# Altium schematic symbol library CHXXX.schlib: 532 symbols (part 6 of 8)
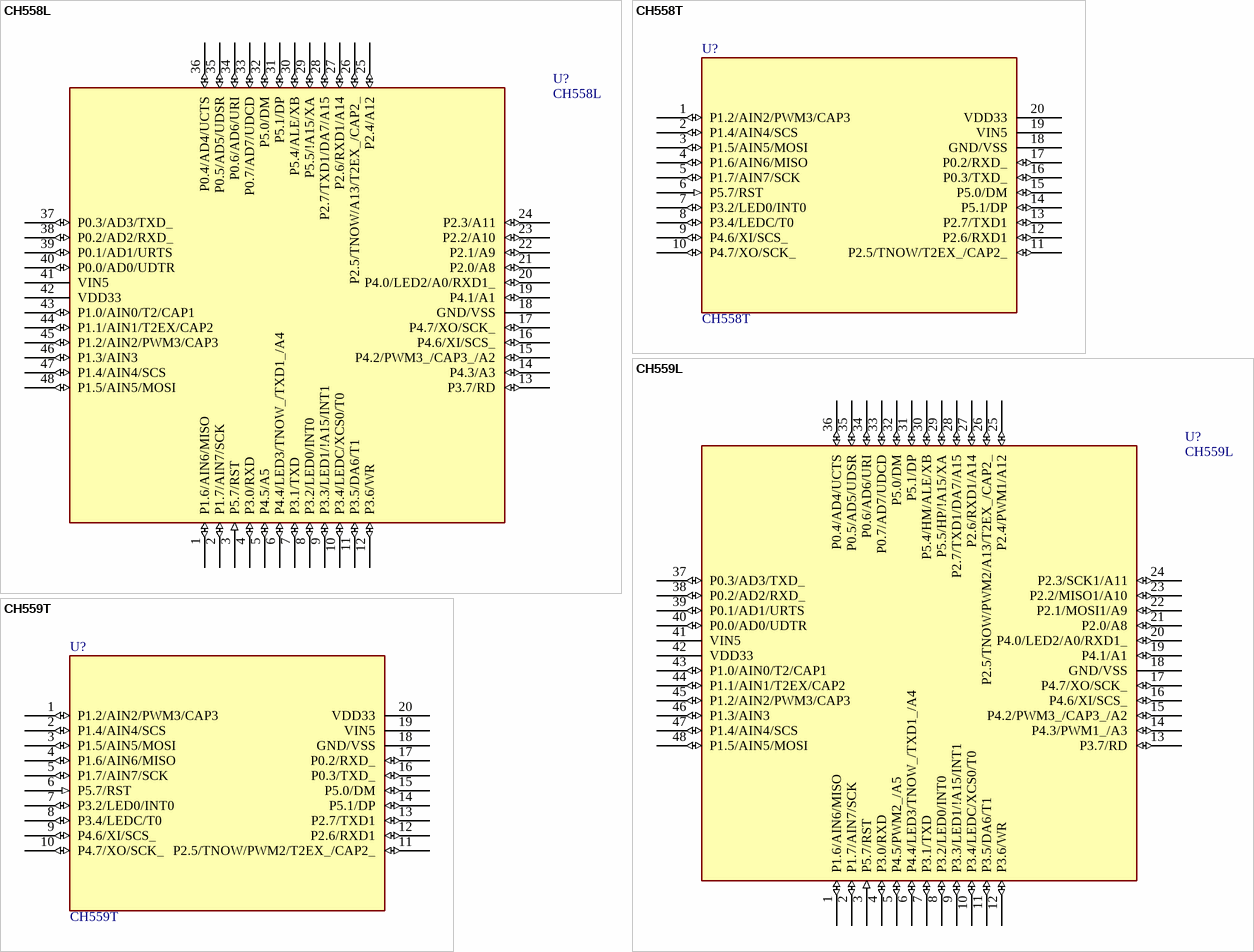
[diagram p75: symbols CH558L to CH559T]

## CH558L
designator U?
8bit MCS51 MCU with ADC & SPI & USB device & dual UART
footprint LQFP48
pins: 1 P1.6/AIN6/MISO (io), 2 P1.7/AIN7/SCK (io), 3 P5.7/RST (in), 4 P3.0/RXD (io), 5 P4.5/A5 (io), 6 P4.4/LED3/TNOW_/TXD1_/A4 (io), 7 P3.1/TXD (io), 8 P3.2/LED0/INT0 (io), 9 P3.3/LED1/!A15/INT1 (io), 10 P3.4/LEDC/XCS0/T0 (io), 11 P3.5/DA6/T1 (io), 12 P3.6/WR (io), 13 P3.7/RD (io), 14 P4.3/A3 (io), 15 P4.2/PWM3_/CAP3_/A2 (io), 16 P4.6/XI/SCS_ (io), 17 P4.7/XO/SCK_ (io), 18 GND/VSS (power), 19 P4.1/A1 (io), 20 P4.0/LED2/A0/RXD1_ (io), 21 P2.0/A8 (io), 22 P2.1/A9 (io), 23 P2.2/A10 (io), 24 P2.3/A11 (io), 25 P2.4/A12 (io), 26 P2.5/TNOW/A13/T2EX_/CAP2_ (io), 27 P2.6/RXD1/A14 (io), 28 P2.7/TXD1/DA7/A15 (io), 29 P5.5/!A15/XA (io), 30 P5.4/ALE/XB (io), 31 P5.1/DP (io), 32 P5.0/DM (io), 33 P0.7/AD7/UDCD (io), 34 P0.6/AD6/URI (io), 35 P0.5/AD5/UDSR (io), 36 P0.4/AD4/UCTS (io), 37 P0.3/AD3/TXD_ (io), 38 P0.2/AD2/RXD_ (io), 39 P0.1/AD1/URTS (io), 40 P0.0/AD0/UDTR (io), 41 VIN5 (power), 42 VDD33 (power), 43 P1.0/AIN0/T2/CAP1 (io), 44 P1.1/AIN1/T2EX/CAP2 (io), 45 P1.2/AIN2/PWM3/CAP3 (io), 46 P1.3/AIN3 (io), 47 P1.4/AIN4/SCS (io), 48 P1.5/AIN5/MOSI (io)

## CH558T
designator U?
8bit MCS51 MCU with ADC & SPI & USB device & dual UART
footprint SSOP20
footprint DIP20
pins: 1 P1.2/AIN2/PWM3/CAP3 (io), 2 P1.4/AIN4/SCS (io), 3 P1.5/AIN5/MOSI (io), 4 P1.6/AIN6/MISO (io), 5 P1.7/AIN7/SCK (io), 6 P5.7/RST (in), 7 P3.2/LED0/INT0 (io), 8 P3.4/LEDC/T0 (io), 9 P4.6/XI/SCS_ (io), 10 P4.7/XO/SCK_ (io), 11 P2.5/TNOW/T2EX_/CAP2_ (io), 12 P2.6/RXD1 (io), 13 P2.7/TXD1 (io), 14 P5.1/DP (io), 15 P5.0/DM (io), 16 P0.3/TXD_ (io), 17 P0.2/RXD_ (io), 18 GND/VSS (power), 19 VIN5 (power), 20 VDD33 (power)

## CH559L
designator U?
8bit MCS51 MCU with ADC & SPI & 2 * USB host & device & dual UART
footprint LQFP48
pins: 1 P1.6/AIN6/MISO (io), 2 P1.7/AIN7/SCK (io), 3 P5.7/RST (in), 4 P3.0/RXD (io), 5 P4.5/PWM2_/A5 (io), 6 P4.4/LED3/TNOW_/TXD1_/A4 (io), 7 P3.1/TXD (io), 8 P3.2/LED0/INT0 (io), 9 P3.3/LED1/!A15/INT1 (io), 10 P3.4/LEDC/XCS0/T0 (io), 11 P3.5/DA6/T1 (io), 12 P3.6/WR (io), 13 P3.7/RD (io), 14 P4.3/PWM1_/A3 (io), 15 P4.2/PWM3_/CAP3_/A2 (io), 16 P4.6/XI/SCS_ (io), 17 P4.7/XO/SCK_ (io), 18 GND/VSS (power), 19 P4.1/A1 (io), 20 P4.0/LED2/A0/RXD1_ (io), 21 P2.0/A8 (io), 22 P2.1/MOSI1/A9 (io), 23 P2.2/MISO1/A10 (io), 24 P2.3/SCK1/A11 (io), 25 P2.4/PWM1/A12 (io), 26 P2.5/TNOW/PWM2/A13/T2EX_/CAP2_ (io), 27 P2.6/RXD1/A14 (io), 28 P2.7/TXD1/DA7/A15 (io), 29 P5.5/HP/!A15/XA (io), 30 P5.4/HM/ALE/XB (io), 31 P5.1/DP (io), 32 P5.0/DM (io), 33 P0.7/AD7/UDCD (io), 34 P0.6/AD6/URI (io), 35 P0.5/AD5/UDSR (io), 36 P0.4/AD4/UCTS (io), 37 P0.3/AD3/TXD_ (io), 38 P0.2/AD2/RXD_ (io), 39 P0.1/AD1/URTS (io), 40 P0.0/AD0/UDTR (io), 41 VIN5 (power), 42 VDD33 (power), 43 P1.0/AIN0/T2/CAP1 (io), 44 P1.1/AIN1/T2EX/CAP2 (io), 45 P1.2/AIN2/PWM3/CAP3 (io), 46 P1.3/AIN3 (io), 47 P1.4/AIN4/SCS (io), 48 P1.5/AIN5/MOSI (io)

## CH559T
designator U?
8bit MCS51 MCU with ADC & SPI & USB host & device & dual UART
footprint SSOP20
footprint DIP20
pins: 1 P1.2/AIN2/PWM3/CAP3 (io), 2 P1.4/AIN4/SCS (io), 3 P1.5/AIN5/MOSI (io), 4 P1.6/AIN6/MISO (io), 5 P1.7/AIN7/SCK (io), 6 P5.7/RST (in), 7 P3.2/LED0/INT0 (io), 8 P3.4/LEDC/T0 (io), 9 P4.6/XI/SCS_ (io), 10 P4.7/XO/SCK_ (io), 11 P2.5/TNOW/PWM2/T2EX_/CAP2_ (io), 12 P2.6/RXD1 (io), 13 P2.7/TXD1 (io), 14 P5.1/DP (io), 15 P5.0/DM (io), 16 P0.3/TXD_ (io), 17 P0.2/RXD_ (io), 18 GND/VSS (power), 19 VIN5 (power), 20 VDD33 (power)

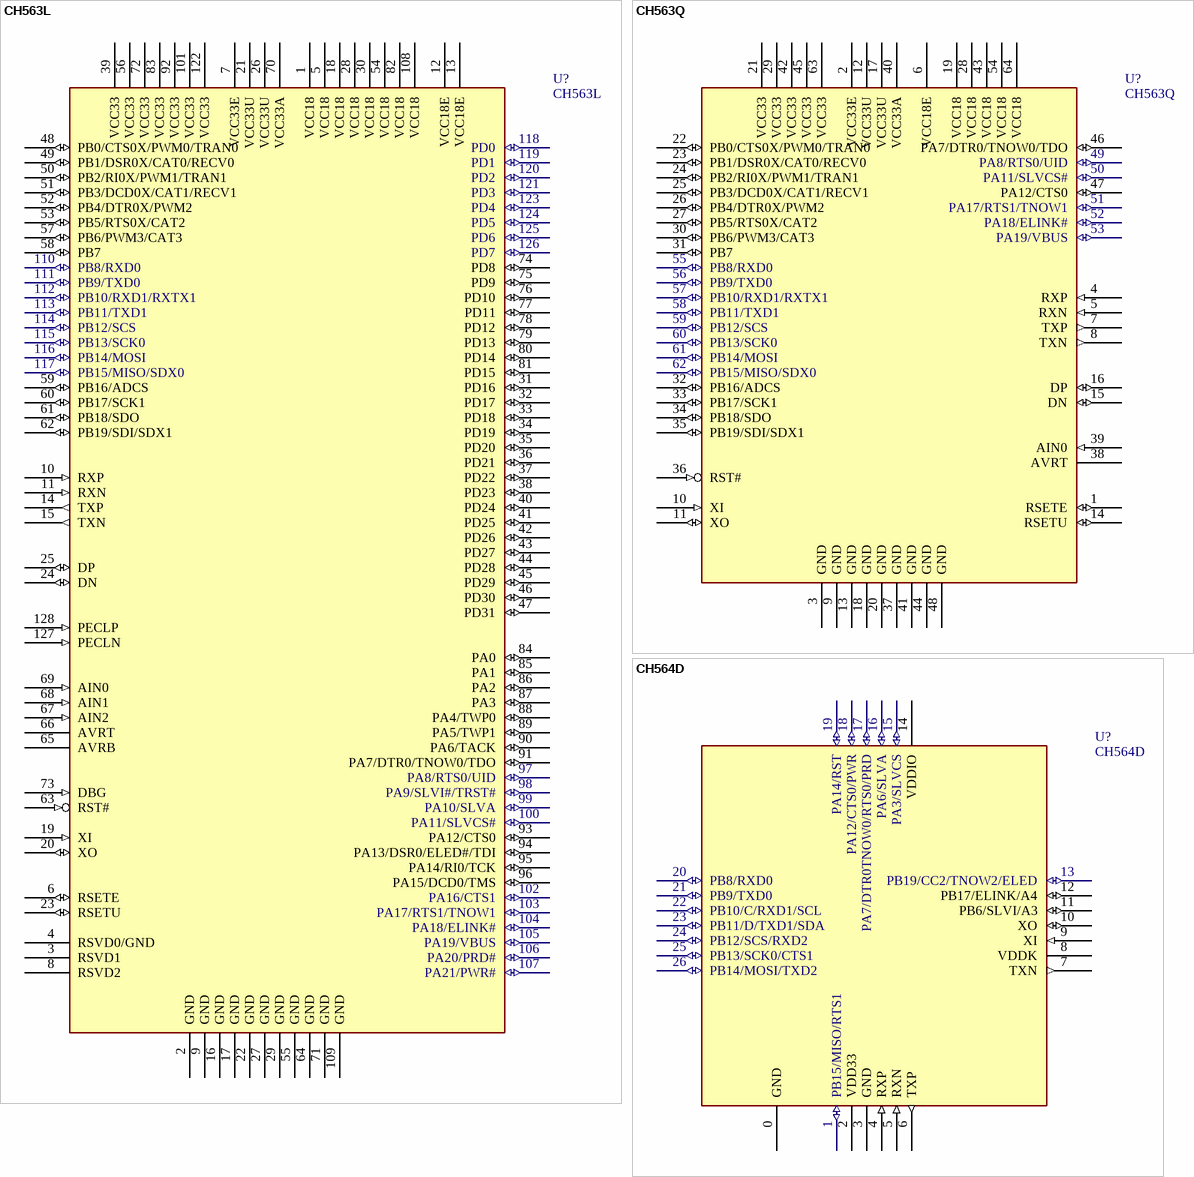
[diagram p46: symbols CH563L to CH564D]

## CH563L
designator U?
32bit MCU with USB OTG 2.0 & 100Mbps Ethernet
footprint LQFP128
pins: 1 VCC18 (power), 2 GND (power), 3 RSVD1, 4 RSVD0/GND (power), 5 VCC18 (power), 6 RSETE (io), 7 VCC33E (power), 8 RSVD2, 9 GND (power), 10 RXP (in), 11 RXN (in), 12 VCC18E (power), 13 VCC18E (power), 14 TXP (out), 15 TXN (out), 16 GND (power), 17 GND (power), 18 VCC18 (power), 19 XI (in), 20 XO (io), 21 VCC33U (power), 22 GND (power), 23 RSETU (io), 24 DN (io), 25 DP (io), 26 VCC33U (power), 27 GND (power), 28 VCC18 (power), 29 GND (power), 30 VCC18 (power), 31 PD16 (io), 32 PD17 (io), 33 PD18 (io), 34 PD19 (io), 35 PD20 (io), 36 PD21 (io), 37 PD22 (io), 38 PD23 (io), 39 VCC33 (power), 40 PD24 (io), 41 PD25 (io), 42 PD26 (io), 43 PD27 (io), 44 PD28 (io), 45 PD29 (io), 46 PD30 (io), 47 PD31 (io), 48 PB0/CTS0X/PWM0/TRAN0 (io), 49 PB1/DSR0X/CAT0/RECV0 (io), 50 PB2/RI0X/PWM1/TRAN1 (io), 51 PB3/DCD0X/CAT1/RECV1 (io), 52 PB4/DTR0X/PWM2 (io), 53 PB5/RTS0X/CAT2 (io), 54 VCC18 (power), 55 GND (power), 56 VCC33 (power), 57 PB6/PWM3/CAT3 (io), 58 PB7 (io), 59 PB16/ADCS (io), 60 PB17/SCK1 (io), 61 PB18/SDO (io), 62 PB19/SDI/SDX1 (io), 63 RST# (in), 64 GND (power), 65 AVRB (power), 66 AVRT (power), 67 AIN2 (in), 68 AIN1 (in), 69 AIN0 (in), 70 VCC33A (power), 71 GND (power), 72 VCC33 (power), 73 DBG (in), 74 PD8 (io), 75 PD9 (io), 76 PD10 (io), 77 PD11 (io), 78 PD12 (io), 79 PD13 (io), 80 PD14 (io), 81 PD15 (io), 82 VCC18 (power), 83 VCC33 (power), 84 PA0 (io), 85 PA1 (io), 86 PA2 (io), 87 PA3 (io), 88 PA4/TWP0 (io), 89 PA5/TWP1 (io), 90 PA6/TACK (io), 91 PA7/DTR0/TNOW0/TDO (io), 92 VCC33 (power), 93 PA12/CTS0 (io), 94 PA13/DSR0/ELED#/TDI (io), 95 PA14/RI0/TCK (io), 96 PA15/DCD0/TMS (io), 97 PA8/RTS0/UID (io), 98 PA9/SLVI#/TRST# (io), 99 PA10/SLVA (io), 100 PA11/SLVCS# (io), 101 VCC33 (power), 102 PA16/CTS1 (io), 103 PA17/RTS1/TNOW1 (io), 104 PA18/ELINK# (io), 105 PA19/VBUS (io), 106 PA20/PRD# (io), 107 PA21/PWR# (io), 108 VCC18 (power), 109 GND (power), 110 PB8/RXD0 (io), 111 PB9/TXD0 (io), 112 PB10/RXD1/RXTX1 (io), 113 PB11/TXD1 (io), 114 PB12/SCS (io), 115 PB13/SCK0 (io), 116 PB14/MOSI (io), 117 PB15/MISO/SDX0 (io), 118 PD0 (io), 119 PD1 (io), 120 PD2 (io), 121 PD3 (io), 122 VCC33 (power), 123 PD4 (io), 124 PD5 (io), 125 PD6 (io), 126 PD7 (io), 127 PECLN (in), 128 PECLP (in)

## CH563Q
designator U?
32bit MCU with USB OTG 2.0 & 100Mbps Ethernet
footprint LQFP64M_10X10
pins: 1 RSETE (io), 2 VCC33E (power), 3 GND (power), 4 RXP (in), 5 RXN (in), 6 VCC18E (power), 7 TXP (out), 8 TXN (out), 9 GND (power), 10 XI (in), 11 XO (io), 12 VCC33U (power), 13 GND (power), 14 RSETU (io), 15 DN (io), 16 DP (io), 17 VCC33U (power), 18 GND (power), 19 VCC18 (power), 20 GND (power), 21 VCC33 (power), 22 PB0/CTS0X/PWM0/TRAN0 (io), 23 PB1/DSR0X/CAT0/RECV0 (io), 24 PB2/RI0X/PWM1/TRAN1 (io), 25 PB3/DCD0X/CAT1/RECV1 (io), 26 PB4/DTR0X/PWM2 (io), 27 PB5/RTS0X/CAT2 (io), 28 VCC18 (power), 29 VCC33 (power), 30 PB6/PWM3/CAT3 (io), 31 PB7 (io), 32 PB16/ADCS (io), 33 PB17/SCK1 (io), 34 PB18/SDO (io), 35 PB19/SDI/SDX1 (io), 36 RST# (in), 37 GND (power), 38 AVRT (power), 39 AIN0 (in), 40 VCC33A (power), 41 GND (power), 42 VCC33 (power), 43 VCC18 (power), 44 GND (power), 45 VCC33 (power), 46 PA7/DTR0/TNOW0/TDO (io), 47 PA12/CTS0 (io), 48 GND (power), 49 PA8/RTS0/UID (io), 50 PA11/SLVCS# (io), 51 PA17/RTS1/TNOW1 (io), 52 PA18/ELINK# (io), 53 PA19/VBUS (io), 54 VCC18 (power), 55 PB8/RXD0 (io), 56 PB9/TXD0 (io), 57 PB10/RXD1/RXTX1 (io), 58 PB11/TXD1 (io), 59 PB12/SCS (io), 60 PB13/SCK0 (io), 61 PB14/MOSI (io), 62 PB15/MISO/SDX0 (io), 63 VCC33 (power), 64 VCC18 (power)

## CH564D
designator U?
RISC-V MCU with 100Mbps Ethernet
footprint QFN26C_3X3
pins: 0 GND (power), 1 PB15/MISO/RTS1 (io), 2 VDD33 (power), 3 GND (power), 4 RXP (in), 5 RXN (in), 6 TXP (out), 7 TXN (out), 8 VDDK (power), 9 XI (in), 10 XO (io), 11 PB6/SLVI/A3 (io), 12 PB17/ELINK/A4 (io), 13 PB19/CC2/TNOW2/ELED (io), 14 VDDIO (power), 15 PA3/SLVCS (io), 16 PA6/SLVA (io), 17 PA7/DTR0TNOW0/RTS0/PRD (io), 18 PA12/CTS0/PWR (io), 19 PA14/RST (io), 20 PB8/RXD0 (io), 21 PB9/TXD0 (io), 22 PB10/C/RXD1/SCL (io), 23 PB11/D/TXD1/SDA (io), 24 PB12/SCS/RXD2 (io), 25 PB13/SCK0/CTS1 (io), 26 PB14/MOSI/TXD2 (io)
2 alternate drawings of the same symbol

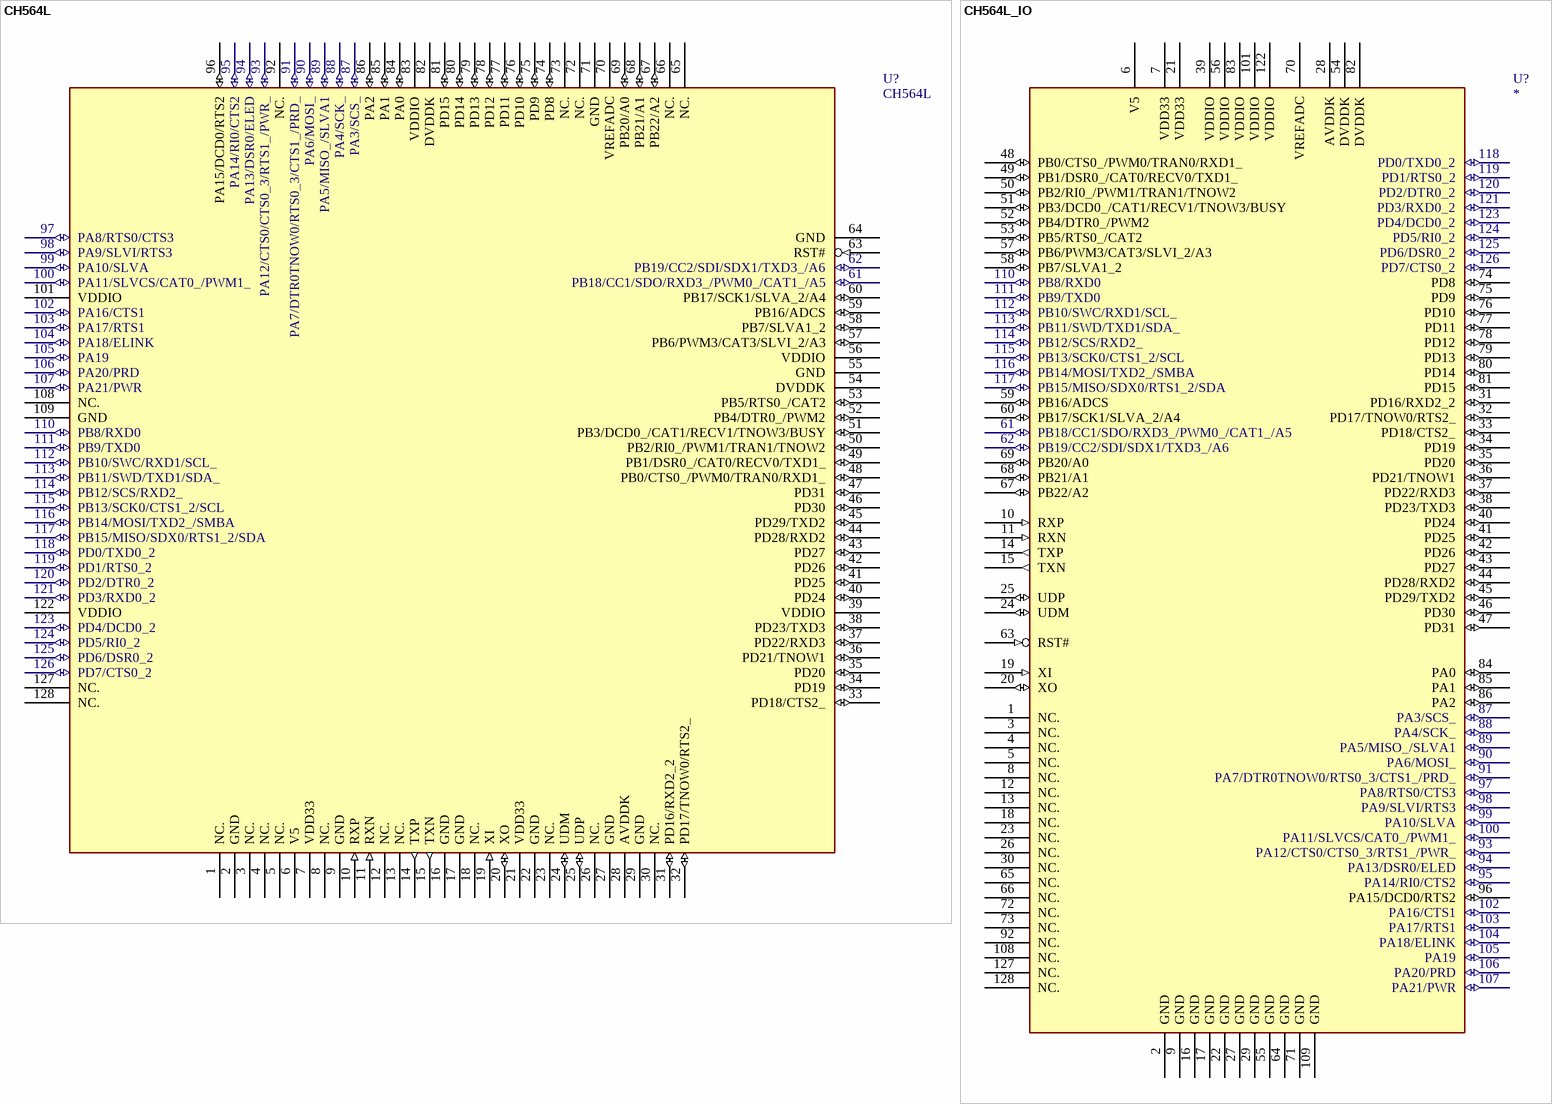
[diagram p47: symbols CH564L to CH564L_IO]

## CH564L
designator U?
RISC-V MCU with USB OTG 2.0 & 100Mbps Ethernet
footprint LQFP128
pins: 1 NC., 2 GND (power), 3 NC., 4 NC., 5 NC., 6 V5 (power), 7 VDD33 (power), 8 NC., 9 GND (power), 10 RXP (in), 11 RXN (in), 12 NC., 13 NC., 14 TXP (out), 15 TXN (out), 16 GND (power), 17 GND (power), 18 NC., 19 XI (in), 20 XO (io), 21 VDD33 (power), 22 GND (power), 23 NC., 24 UDM (io), 25 UDP (io), 26 NC., 27 GND (power), 28 AVDDK (power), 29 GND (power), 30 NC., 31 PD16/RXD2_2 (io), 32 PD17/TNOW0/RTS2_ (io), 33 PD18/CTS2_ (io), 34 PD19 (io), 35 PD20 (io), 36 PD21/TNOW1 (io), 37 PD22/RXD3 (io), 38 PD23/TXD3 (io), 39 VDDIO (power), 40 PD24 (io), 41 PD25 (io), 42 PD26 (io), 43 PD27 (io), 44 PD28/RXD2 (io), 45 PD29/TXD2 (io), 46 PD30 (io), 47 PD31 (io), 48 PB0/CTS0_/PWM0/TRAN0/RXD1_ (io), 49 PB1/DSR0_/CAT0/RECV0/TXD1_ (io), 50 PB2/RI0_/PWM1/TRAN1/TNOW2 (io), 51 PB3/DCD0_/CAT1/RECV1/TNOW3/BUSY (io), 52 PB4/DTR0_/PWM2 (io), 53 PB5/RTS0_/CAT2 (io), 54 DVDDK (power), 55 GND (power), 56 VDDIO (power), 57 PB6/PWM3/CAT3/SLVI_2/A3 (io), 58 PB7/SLVA1_2 (io), 59 PB16/ADCS (io), 60 PB17/SCK1/SLVA_2/A4 (io), 61 PB18/CC1/SDO/RXD3_/PWM0_/CAT1_/A5 (io), 62 PB19/CC2/SDI/SDX1/TXD3_/A6 (io), 63 RST# (in), 64 GND (power), 65 NC., 66 NC., 67 PB22/A2 (io), 68 PB21/A1 (io), 69 PB20/A0 (io), 70 VREFADC (power), 71 GND (power), 72 NC., 73 NC., 74 PD8 (io), 75 PD9 (io), 76 PD10 (io), 77 PD11 (io), 78 PD12 (io), 79 PD13 (io), 80 PD14 (io), 81 PD15 (io), 82 DVDDK (power), 83 VDDIO (power), 84 PA0 (io), 85 PA1 (io), 86 PA2 (io), 87 PA3/SCS_ (io), 88 PA4/SCK_ (io), 89 PA5/MISO_/SLVA1 (io), 90 PA6/MOSI_ (io), 91 PA7/DTR0TNOW0/RTS0_3/CTS1_/PRD_ (io), 92 NC., 93 PA12/CTS0/CTS0_3/RTS1_/PWR_ (io), 94 PA13/DSR0/ELED (io), 95 PA14/RI0/CTS2 (io), 96 PA15/DCD0/RTS2 (io), 97 PA8/RTS0/CTS3 (io), 98 PA9/SLVI/RTS3 (io), 99 PA10/SLVA (io), 100 PA11/SLVCS/CAT0_/PWM1_ (io), 101 VDDIO (power), 102 PA16/CTS1 (io), 103 PA17/RTS1 (io), 104 PA18/ELINK (io), 105 PA19 (io), 106 PA20/PRD (io), 107 PA21/PWR (io), 108 NC., 109 GND (power), 110 PB8/RXD0 (io), 111 PB9/TXD0 (io), 112 PB10/SWC/RXD1/SCL_ (io), 113 PB11/SWD/TXD1/SDA_ (io), 114 PB12/SCS/RXD2_ (io), 115 PB13/SCK0/CTS1_2/SCL (io), 116 PB14/MOSI/TXD2_/SMBA (io), 117 PB15/MISO/SDX0/RTS1_2/SDA (io), 118 PD0/TXD0_2 (io), 119 PD1/RTS0_2 (io), 120 PD2/DTR0_2 (io), 121 PD3/RXD0_2 (io), 122 VDDIO (power), 123 PD4/DCD0_2 (io), 124 PD5/RI0_2 (io), 125 PD6/DSR0_2 (io), 126 PD7/CTS0_2 (io), 127 NC., 128 NC.
2 alternate drawings of the same symbol

## CH564L_IO
designator U?
RISC-V MCU with USB OTG 2.0 & 100Mbps Ethernet
footprint LQFP128
pins: 1 NC., 2 GND (power), 3 NC., 4 NC., 5 NC., 6 V5 (power), 7 VDD33 (power), 8 NC., 9 GND (power), 10 RXP (in), 11 RXN (in), 12 NC., 13 NC., 14 TXP (out), 15 TXN (out), 16 GND (power), 17 GND (power), 18 NC., 19 XI (in), 20 XO (io), 21 VDD33 (power), 22 GND (power), 23 NC., 24 UDM (io), 25 UDP (io), 26 NC., 27 GND (power), 28 AVDDK (power), 29 GND (power), 30 NC., 31 PD16/RXD2_2 (io), 32 PD17/TNOW0/RTS2_ (io), 33 PD18/CTS2_ (io), 34 PD19 (io), 35 PD20 (io), 36 PD21/TNOW1 (io), 37 PD22/RXD3 (io), 38 PD23/TXD3 (io), 39 VDDIO (power), 40 PD24 (io), 41 PD25 (io), 42 PD26 (io), 43 PD27 (io), 44 PD28/RXD2 (io), 45 PD29/TXD2 (io), 46 PD30 (io), 47 PD31 (io), 48 PB0/CTS0_/PWM0/TRAN0/RXD1_ (io), 49 PB1/DSR0_/CAT0/RECV0/TXD1_ (io), 50 PB2/RI0_/PWM1/TRAN1/TNOW2 (io), 51 PB3/DCD0_/CAT1/RECV1/TNOW3/BUSY (io), 52 PB4/DTR0_/PWM2 (io), 53 PB5/RTS0_/CAT2 (io), 54 DVDDK (power), 55 GND (power), 56 VDDIO (power), 57 PB6/PWM3/CAT3/SLVI_2/A3 (io), 58 PB7/SLVA1_2 (io), 59 PB16/ADCS (io), 60 PB17/SCK1/SLVA_2/A4 (io), 61 PB18/CC1/SDO/RXD3_/PWM0_/CAT1_/A5 (io), 62 PB19/CC2/SDI/SDX1/TXD3_/A6 (io), 63 RST# (in), 64 GND (power), 65 NC., 66 NC., 67 PB22/A2 (io), 68 PB21/A1 (io), 69 PB20/A0 (io), 70 VREFADC (power), 71 GND (power), 72 NC., 73 NC., 74 PD8 (io), 75 PD9 (io), 76 PD10 (io), 77 PD11 (io), 78 PD12 (io), 79 PD13 (io), 80 PD14 (io), 81 PD15 (io), 82 DVDDK (power), 83 VDDIO (power), 84 PA0 (io), 85 PA1 (io), 86 PA2 (io), 87 PA3/SCS_ (io), 88 PA4/SCK_ (io), 89 PA5/MISO_/SLVA1 (io), 90 PA6/MOSI_ (io), 91 PA7/DTR0TNOW0/RTS0_3/CTS1_/PRD_ (io), 92 NC., 93 PA12/CTS0/CTS0_3/RTS1_/PWR_ (io), 94 PA13/DSR0/ELED (io), 95 PA14/RI0/CTS2 (io), 96 PA15/DCD0/RTS2 (io), 97 PA8/RTS0/CTS3 (io), 98 PA9/SLVI/RTS3 (io), 99 PA10/SLVA (io), 100 PA11/SLVCS/CAT0_/PWM1_ (io), 101 VDDIO (power), 102 PA16/CTS1 (io), 103 PA17/RTS1 (io), 104 PA18/ELINK (io), 105 PA19 (io), 106 PA20/PRD (io), 107 PA21/PWR (io), 108 NC., 109 GND (power), 110 PB8/RXD0 (io), 111 PB9/TXD0 (io), 112 PB10/SWC/RXD1/SCL_ (io), 113 PB11/SWD/TXD1/SDA_ (io), 114 PB12/SCS/RXD2_ (io), 115 PB13/SCK0/CTS1_2/SCL (io), 116 PB14/MOSI/TXD2_/SMBA (io), 117 PB15/MISO/SDX0/RTS1_2/SDA (io), 118 PD0/TXD0_2 (io), 119 PD1/RTS0_2 (io), 120 PD2/DTR0_2 (io), 121 PD3/RXD0_2 (io), 122 VDDIO (power), 123 PD4/DCD0_2 (io), 124 PD5/RI0_2 (io), 125 PD6/DSR0_2 (io), 126 PD7/CTS0_2 (io), 127 NC., 128 NC.
2 alternate drawings of the same symbol

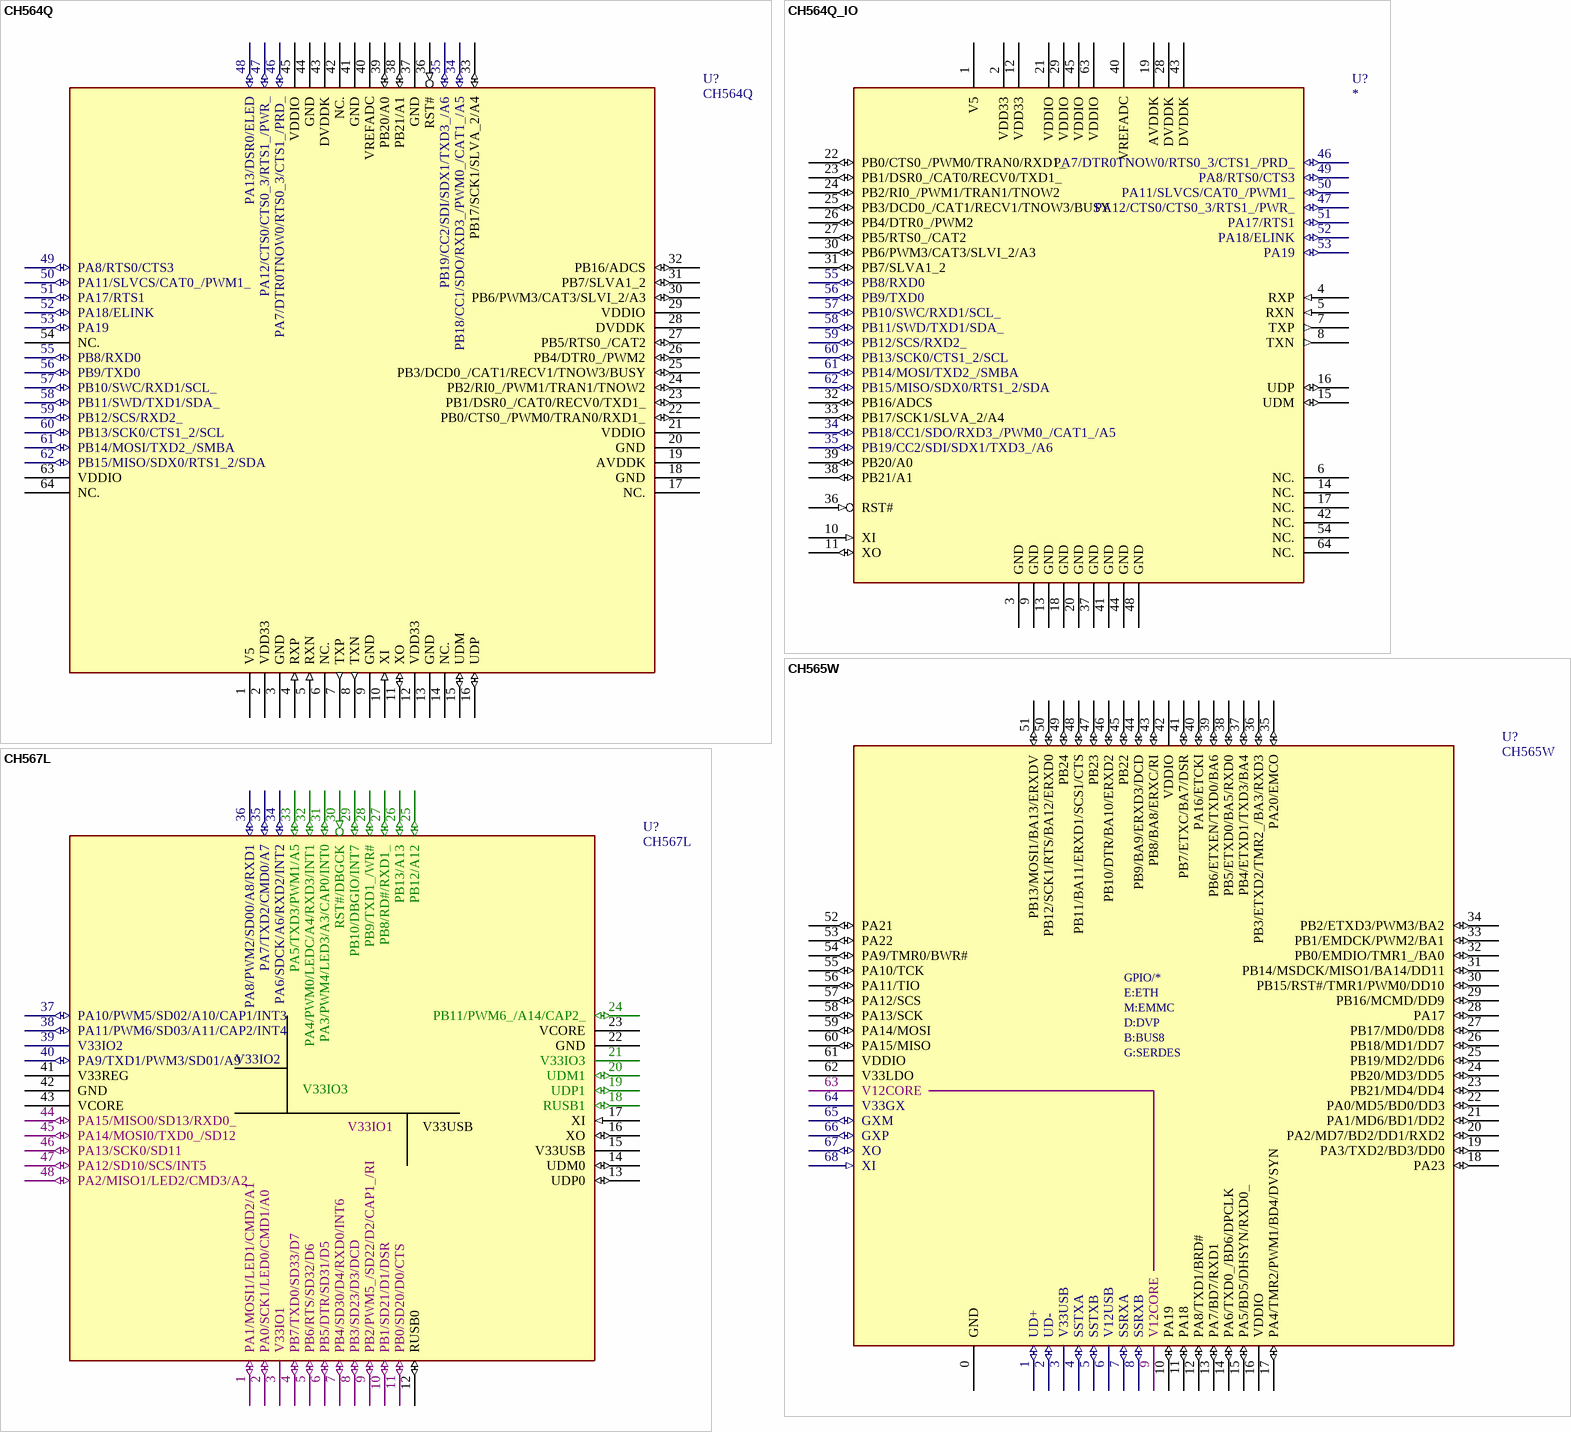
[diagram p48: symbols CH564Q to CH567L]

## CH564Q
designator U?
RISC-V MCU with USB OTG 2.0 & 100Mbps Ethernet
footprint LQFP64M_10X10
pins: 1 V5 (power), 2 VDD33 (power), 3 GND (power), 4 RXP (in), 5 RXN (in), 6 NC., 7 TXP (out), 8 TXN (out), 9 GND (power), 10 XI (in), 11 XO (io), 12 VDD33 (power), 13 GND (power), 14 NC., 15 UDM (io), 16 UDP (io), 17 NC., 18 GND (power), 19 AVDDK (power), 20 GND (power), 21 VDDIO (power), 22 PB0/CTS0_/PWM0/TRAN0/RXD1_ (io), 23 PB1/DSR0_/CAT0/RECV0/TXD1_ (io), 24 PB2/RI0_/PWM1/TRAN1/TNOW2 (io), 25 PB3/DCD0_/CAT1/RECV1/TNOW3/BUSY (io), 26 PB4/DTR0_/PWM2 (io), 27 PB5/RTS0_/CAT2 (io), 28 DVDDK (power), 29 VDDIO (power), 30 PB6/PWM3/CAT3/SLVI_2/A3 (io), 31 PB7/SLVA1_2 (io), 32 PB16/ADCS (io), 33 PB17/SCK1/SLVA_2/A4 (io), 34 PB18/CC1/SDO/RXD3_/PWM0_/CAT1_/A5 (io), 35 PB19/CC2/SDI/SDX1/TXD3_/A6 (io), 36 RST# (in), 37 GND (power), 38 PB21/A1 (io), 39 PB20/A0 (io), 40 VREFADC (power), 41 GND (power), 42 NC., 43 DVDDK (power), 44 GND (power), 45 VDDIO (power), 46 PA7/DTR0TNOW0/RTS0_3/CTS1_/PRD_ (io), 47 PA12/CTS0/CTS0_3/RTS1_/PWR_ (io), 48 PA13/DSR0/ELED (io), 49 PA8/RTS0/CTS3 (io), 50 PA11/SLVCS/CAT0_/PWM1_ (io), 51 PA17/RTS1 (io), 52 PA18/ELINK (io), 53 PA19 (io), 54 NC., 55 PB8/RXD0 (io), 56 PB9/TXD0 (io), 57 PB10/SWC/RXD1/SCL_ (io), 58 PB11/SWD/TXD1/SDA_ (io), 59 PB12/SCS/RXD2_ (io), 60 PB13/SCK0/CTS1_2/SCL (io), 61 PB14/MOSI/TXD2_/SMBA (io), 62 PB15/MISO/SDX0/RTS1_2/SDA (io), 63 VDDIO (power), 64 NC.
2 alternate drawings of the same symbol

## CH564Q_IO
designator U?
RISC-V MCU with USB OTG 2.0 & 100Mbps Ethernet
footprint LQFP64M_10X10
pins: 1 V5 (power), 2 VDD33 (power), 3 GND (power), 4 RXP (in), 5 RXN (in), 6 NC., 7 TXP (out), 8 TXN (out), 9 GND (power), 10 XI (in), 11 XO (io), 12 VDD33 (power), 13 GND (power), 14 NC., 15 UDM (io), 16 UDP (io), 17 NC., 18 GND (power), 19 AVDDK (power), 20 GND (power), 21 VDDIO (power), 22 PB0/CTS0_/PWM0/TRAN0/RXD1_ (io), 23 PB1/DSR0_/CAT0/RECV0/TXD1_ (io), 24 PB2/RI0_/PWM1/TRAN1/TNOW2 (io), 25 PB3/DCD0_/CAT1/RECV1/TNOW3/BUSY (io), 26 PB4/DTR0_/PWM2 (io), 27 PB5/RTS0_/CAT2 (io), 28 DVDDK (power), 29 VDDIO (power), 30 PB6/PWM3/CAT3/SLVI_2/A3 (io), 31 PB7/SLVA1_2 (io), 32 PB16/ADCS (io), 33 PB17/SCK1/SLVA_2/A4 (io), 34 PB18/CC1/SDO/RXD3_/PWM0_/CAT1_/A5 (io), 35 PB19/CC2/SDI/SDX1/TXD3_/A6 (io), 36 RST# (in), 37 GND (power), 38 PB21/A1 (io), 39 PB20/A0 (io), 40 VREFADC (power), 41 GND (power), 42 NC., 43 DVDDK (power), 44 GND (power), 45 VDDIO (power), 46 PA7/DTR0TNOW0/RTS0_3/CTS1_/PRD_ (io), 47 PA12/CTS0/CTS0_3/RTS1_/PWR_ (io), 48 GND (power), 49 PA8/RTS0/CTS3 (io), 50 PA11/SLVCS/CAT0_/PWM1_ (io), 51 PA17/RTS1 (io), 52 PA18/ELINK (io), 53 PA19 (io), 54 NC., 55 PB8/RXD0 (io), 56 PB9/TXD0 (io), 57 PB10/SWC/RXD1/SCL_ (io), 58 PB11/SWD/TXD1/SDA_ (io), 59 PB12/SCS/RXD2_ (io), 60 PB13/SCK0/CTS1_2/SCL (io), 61 PB14/MOSI/TXD2_/SMBA (io), 62 PB15/MISO/SDX0/RTS1_2/SDA (io), 63 VDDIO (power), 64 NC.
2 alternate drawings of the same symbol

## CH565W
designator U?
32bit RISC-V MCU with USB 3.0 SS/HS & 4*UART & ETH & DVP
footprint QFN68_8X8
pins: 0 GND (power), 1 UD+ (io), 2 UD- (io), 3 V33USB (power), 4 SSTXA (io), 5 SSTXB (io), 6 V12USB (power), 7 SSRXA (io), 8 SSRXB (io), 9 V12CORE (power), 10 PA19 (io), 11 PA18 (io), 12 PA8/TXD1/BRD# (io), 13 PA7/BD7/RXD1 (io), 14 PA6/TXD0_/BD6/DPCLK (io), 15 PA5/BD5/DHSYN/RXD0_ (io), 16 VDDIO (power), 17 PA4/TMR2/PWM1/BD4/DVSYN (io), 18 PA23 (io), 19 PA3/TXD2/BD3/DD0 (io), 20 PA2/MD7/BD2/DD1/RXD2 (io), 21 PA1/MD6/BD1/DD2 (io), 22 PA0/MD5/BD0/DD3 (io), 23 PB21/MD4/DD4 (io), 24 PB20/MD3/DD5 (io), 25 PB19/MD2/DD6 (io), 26 PB18/MD1/DD7 (io), 27 PB17/MD0/DD8 (io), 28 PA17 (io), 29 PB16/MCMD/DD9 (io), 30 PB15/RST#/TMR1/PWM0/DD10 (io), 31 PB14/MSDCK/MISO1/BA14/DD11 (io), 32 PB0/EMDIO/TMR1_/BA0 (io), 33 PB1/EMDCK/PWM2/BA1 (io), 34 PB2/ETXD3/PWM3/BA2 (io), 35 PA20/EMCO (io), 36 PB3/ETXD2/TMR2_/BA3/RXD3 (io), 37 PB4/ETXD1/TXD3/BA4 (io), 38 PB5/ETXD0/BA5/RXD0 (io), 39 PB6/ETXEN/TXD0/BA6 (io), 40 PA16/ETCKI (io), 41 PB7/ETXC/BA7/DSR (io), 42 VDDIO (power), 43 PB8/BA8/ERXC/RI (io), 44 PB9/BA9/ERXD3/DCD (io), 45 PB22 (io), 46 PB10/DTR/BA10/ERXD2 (io), 47 PB23 (io), 48 PB11/BA11/ERXD1/SCS1/CTS (io), 49 PB24 (io), 50 PB12/SCK1/RTS/BA12/ERXD0 (io), 51 PB13/MOSI1/BA13/ERXDV (io), 52 PA21 (io), 53 PA22 (io), 54 PA9/TMR0/BWR# (io), 55 PA10/TCK (io), 56 PA11/TIO (io), 57 PA12/SCS (io), 58 PA13/SCK (io), 59 PA14/MOSI (io), 60 PA15/MISO (io), 61 VDDIO (power), 62 V33LDO (power), 63 V12CORE (power), 64 V33GX (power), 65 GXM (io), 66 GXP (io), 67 XO (io), 68 XI (in)
2 alternate drawings of the same symbol
text: GPIO/*; E:ETH; M:EMMC; D:DVP; B:BUS8; G:SERDES

## CH567L
designator U?
32bit MCU with dual USB OTG 2.0 & quad SDIO & quad UART & AES
footprint LQFP48
pins: 1 PA1/MOSI1/LED1/CMD2/A1 (io), 2 PA0/SCK1/LED0/CMD1/A0 (io), 3 V33IO1 (power), 4 PB7/TXD0/SD33/D7 (io), 5 PB6/RTS/SD32/D6 (io), 6 PB5/DTR/SD31/D5 (io), 7 PB4/SD30/D4/RXD0/INT6 (io), 8 PB3/SD23/D3/DCD (io), 9 PB2/PWM5_/SD22/D2/CAP1_/RI (io), 10 PB1/SD21/D1/DSR (io), 11 PB0/SD20/D0/CTS (io), 12 RUSB0 (io), 13 UDP0 (io), 14 UDM0 (io), 15 V33USB (power), 16 XO (io), 17 XI (in), 18 RUSB1 (io), 19 UDP1 (io), 20 UDM1 (io), 21 V33IO3 (power), 22 GND (power), 23 VCORE (power), 24 PB11/PWM6_/A14/CAP2_ (io), 25 PB12/A12 (io), 26 PB13/A13 (io), 27 PB8/RD#/RXD1_ (io), 28 PB9/TXD1_/WR# (io), 29 PB10/DBGIO/INT7 (io), 30 RST#/DBGCK (in), 31 PA3/PWM4/LED3/A3/CAP0/INT0 (io), 32 PA4/PWM0/LEDC/A4/RXD3/INT1 (io), 33 PA5/TXD3/PWM1/A5 (io), 34 PA6/SDCK/A6/RXD2/INT2 (io), 35 PA7/TXD2/CMD0/A7 (io), 36 PA8/PWM2/SD00/A8/RXD1 (io), 37 PA10/PWM5/SD02/A10/CAP1/INT3 (io), 38 PA11/PWM6/SD03/A11/CAP2/INT4 (io), 39 V33IO2 (power), 40 PA9/TXD1/PWM3/SD01/A9 (io), 41 V33REG (power), 42 GND (power), 43 VCORE (power), 44 PA15/MISO0/SD13/RXD0_ (io), 45 PA14/MOSI0/TXD0_/SD12 (io), 46 PA13/SCK0/SD11 (io), 47 PA12/SD10/SCS/INT5 (io), 48 PA2/MISO1/LED2/CMD3/A2 (io)

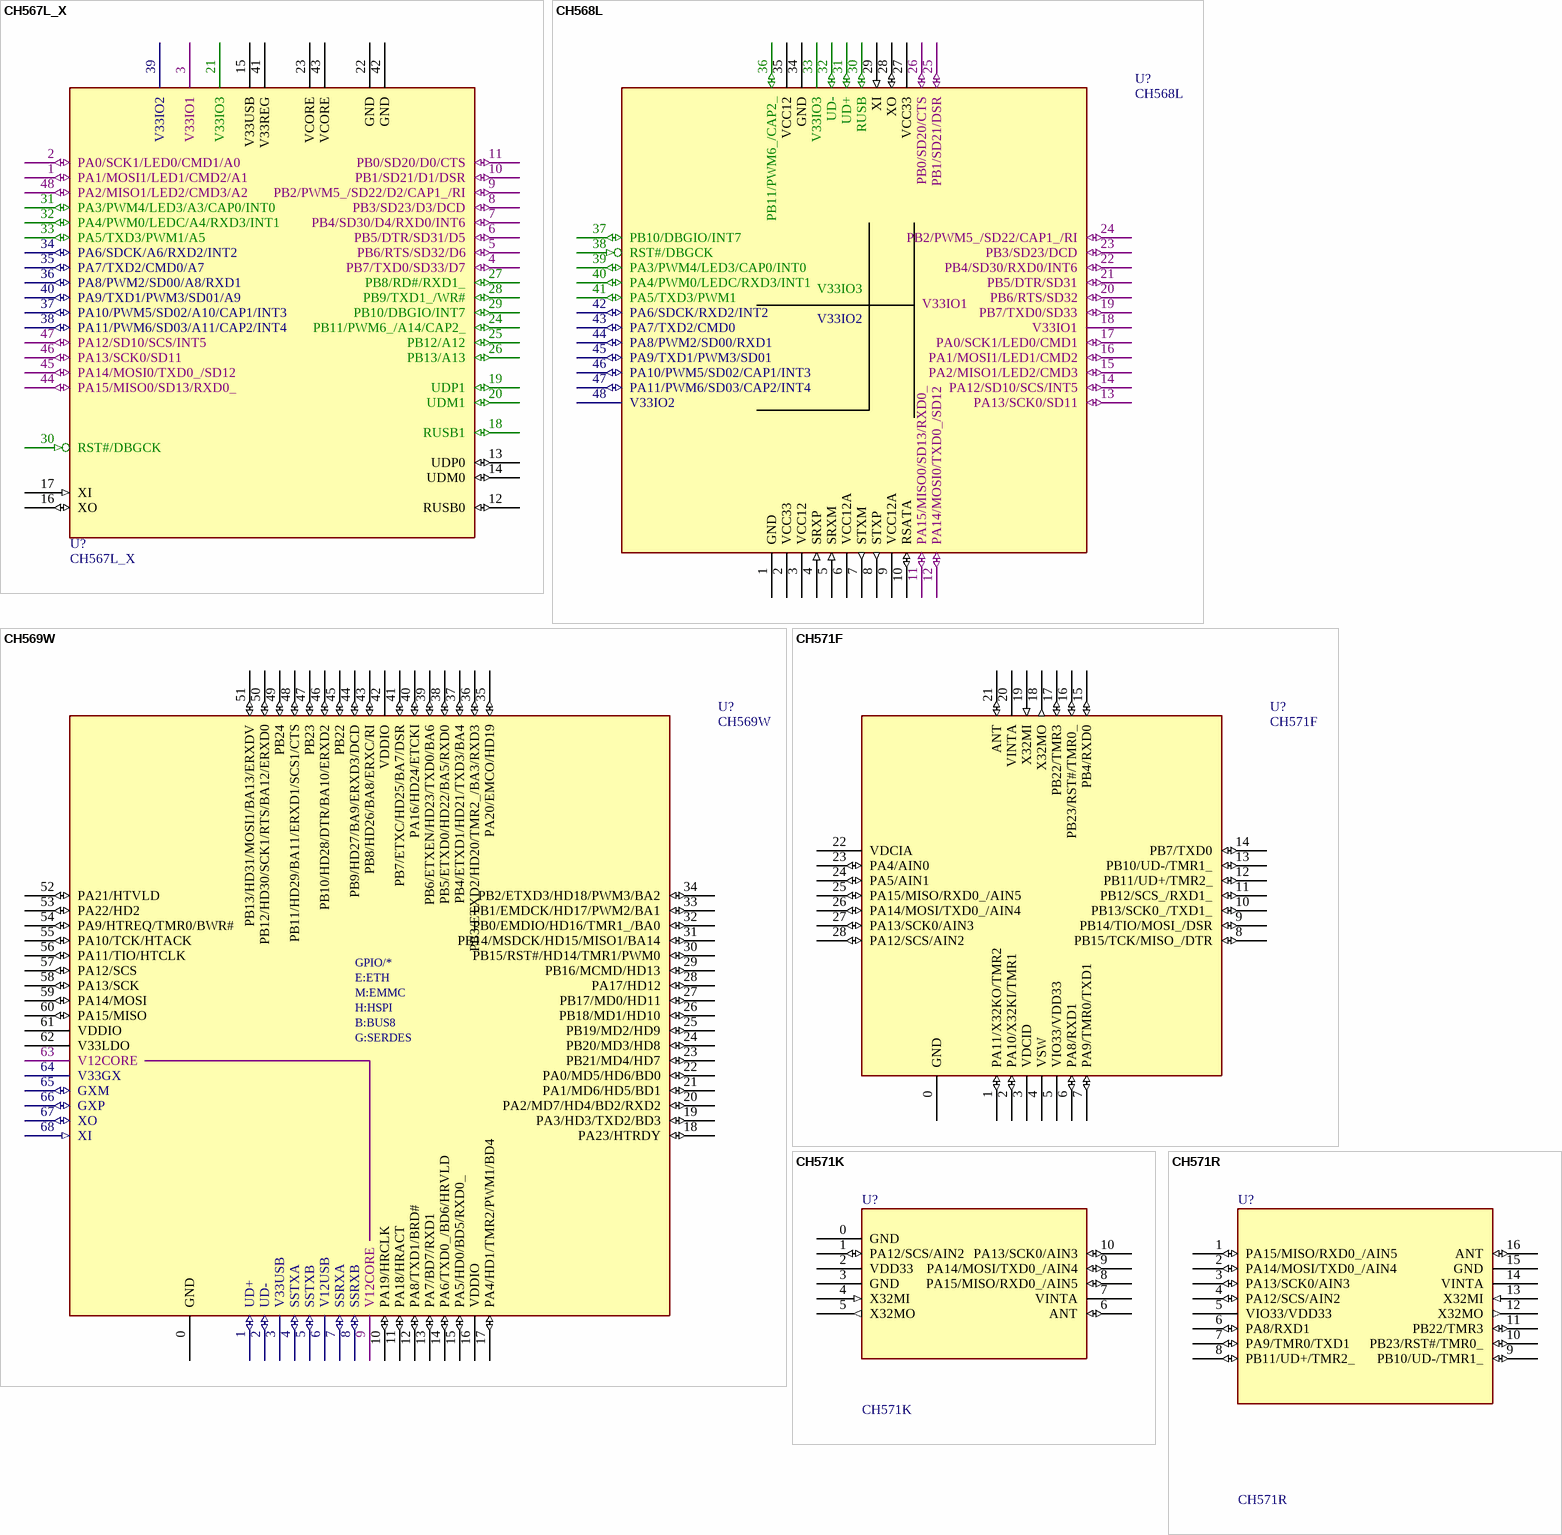
[diagram p49: symbols CH567L_X to CH571R]

## CH567L_X
designator U?
32bit MCU with dual USB OTG 2.0 & quad SDIO & quad UART & AES
footprint LQFP48
pins: 1 PA1/MOSI1/LED1/CMD2/A1 (io), 2 PA0/SCK1/LED0/CMD1/A0 (io), 3 V33IO1 (power), 4 PB7/TXD0/SD33/D7 (io), 5 PB6/RTS/SD32/D6 (io), 6 PB5/DTR/SD31/D5 (io), 7 PB4/SD30/D4/RXD0/INT6 (io), 8 PB3/SD23/D3/DCD (io), 9 PB2/PWM5_/SD22/D2/CAP1_/RI (io), 10 PB1/SD21/D1/DSR (io), 11 PB0/SD20/D0/CTS (io), 12 RUSB0 (io), 13 UDP0 (io), 14 UDM0 (io), 15 V33USB (power), 16 XO (io), 17 XI (in), 18 RUSB1 (io), 19 UDP1 (io), 20 UDM1 (io), 21 V33IO3 (power), 22 GND (power), 23 VCORE (power), 24 PB11/PWM6_/A14/CAP2_ (io), 25 PB12/A12 (io), 26 PB13/A13 (io), 27 PB8/RD#/RXD1_ (io), 28 PB9/TXD1_/WR# (io), 29 PB10/DBGIO/INT7 (io), 30 RST#/DBGCK (in), 31 PA3/PWM4/LED3/A3/CAP0/INT0 (io), 32 PA4/PWM0/LEDC/A4/RXD3/INT1 (io), 33 PA5/TXD3/PWM1/A5 (io), 34 PA6/SDCK/A6/RXD2/INT2 (io), 35 PA7/TXD2/CMD0/A7 (io), 36 PA8/PWM2/SD00/A8/RXD1 (io), 37 PA10/PWM5/SD02/A10/CAP1/INT3 (io), 38 PA11/PWM6/SD03/A11/CAP2/INT4 (io), 39 V33IO2 (power), 40 PA9/TXD1/PWM3/SD01/A9 (io), 41 V33REG (power), 42 GND (power), 43 VCORE (power), 44 PA15/MISO0/SD13/RXD0_ (io), 45 PA14/MOSI0/TXD0_/SD12 (io), 46 PA13/SCK0/SD11 (io), 47 PA12/SD10/SCS/INT5 (io), 48 PA2/MISO1/LED2/CMD3/A2 (io)

## CH568L
designator U?
32bit MCU with USB OTG 2.0 & SATA G2 & quad SDIO & quad UART & AES
footprint LQFP48
pins: 1 GND (power), 2 VCC33 (power), 3 VCC12 (power), 4 SRXP (in), 5 SRXM (in), 6 VCC12A (power), 7 STXM (out), 8 STXP (out), 9 VCC12A (power), 10 RSATA (io), 11 PA15/MISO0/SD13/RXD0_ (io), 12 PA14/MOSI0/TXD0_/SD12 (io), 13 PA13/SCK0/SD11 (io), 14 PA12/SD10/SCS/INT5 (io), 15 PA2/MISO1/LED2/CMD3 (io), 16 PA1/MOSI1/LED1/CMD2 (io), 17 PA0/SCK1/LED0/CMD1 (io), 18 V33IO1 (power), 19 PB7/TXD0/SD33 (io), 20 PB6/RTS/SD32 (io), 21 PB5/DTR/SD31 (io), 22 PB4/SD30/RXD0/INT6 (io), 23 PB3/SD23/DCD (io), 24 PB2/PWM5_/SD22/CAP1_/RI (io), 25 PB1/SD21/DSR (io), 26 PB0/SD20/CTS (io), 27 VCC33 (power), 28 XO (io), 29 XI (in), 30 RUSB (io), 31 UD+ (io), 32 UD- (io), 33 V33IO3 (power), 34 GND (power), 35 VCC12 (power), 36 PB11/PWM6_/CAP2_ (io), 37 PB10/DBGIO/INT7 (io), 38 RST#/DBGCK (in), 39 PA3/PWM4/LED3/CAP0/INT0 (io), 40 PA4/PWM0/LEDC/RXD3/INT1 (io), 41 PA5/TXD3/PWM1 (io), 42 PA6/SDCK/RXD2/INT2 (io), 43 PA7/TXD2/CMD0 (io), 44 PA8/PWM2/SD00/RXD1 (io), 45 PA9/TXD1/PWM3/SD01 (io), 46 PA10/PWM5/SD02/CAP1/INT3 (io), 47 PA11/PWM6/SD03/CAP2/INT4 (io), 48 V33IO2 (power)

## CH569W
designator U?
32bit RISC-V MCU with USB 3.0 SS/HS & 4*UART & ETH & HSPI
footprint QFN68_8X8
pins: 0 GND (power), 1 UD+ (io), 2 UD- (io), 3 V33USB (power), 4 SSTXA (io), 5 SSTXB (io), 6 V12USB (power), 7 SSRXA (io), 8 SSRXB (io), 9 V12CORE (power), 10 PA19/HRCLK (io), 11 PA18/HRACT (io), 12 PA8/TXD1/BRD# (io), 13 PA7/BD7/RXD1 (io), 14 PA6/TXD0_/BD6/HRVLD (io), 15 PA5/HD0/BD5/RXD0_ (io), 16 VDDIO (power), 17 PA4/HD1/TMR2/PWM1/BD4 (io), 18 PA23/HTRDY (io), 19 PA3/HD3/TXD2/BD3 (io), 20 PA2/MD7/HD4/BD2/RXD2 (io), 21 PA1/MD6/HD5/BD1 (io), 22 PA0/MD5/HD6/BD0 (io), 23 PB21/MD4/HD7 (io), 24 PB20/MD3/HD8 (io), 25 PB19/MD2/HD9 (io), 26 PB18/MD1/HD10 (io), 27 PB17/MD0/HD11 (io), 28 PA17/HD12 (io), 29 PB16/MCMD/HD13 (io), 30 PB15/RST#/HD14/TMR1/PWM0 (io), 31 PB14/MSDCK/HD15/MISO1/BA14 (io), 32 PB0/EMDIO/HD16/TMR1_/BA0 (io), 33 PB1/EMDCK/HD17/PWM2/BA1 (io), 34 PB2/ETXD3/HD18/PWM3/BA2 (io), 35 PA20/EMCO/HD19 (io), 36 PB3/ETXD2/HD20/TMR2_/BA3/RXD3 (io), 37 PB4/ETXD1/HD21/TXD3/BA4 (io), 38 PB5/ETXD0/HD22/BA5/RXD0 (io), 39 PB6/ETXEN/HD23/TXD0/BA6 (io), 40 PA16/HD24/ETCKI (io), 41 PB7/ETXC/HD25/BA7/DSR (io), 42 VDDIO (power), 43 PB8/HD26/BA8/ERXC/RI (io), 44 PB9/HD27/BA9/ERXD3/DCD (io), 45 PB22 (io), 46 PB10/HD28/DTR/BA10/ERXD2 (io), 47 PB23 (io), 48 PB11/HD29/BA11/ERXD1/SCS1/CTS (io), 49 PB24 (io), 50 PB12/HD30/SCK1/RTS/BA12/ERXD0 (io), 51 PB13/HD31/MOSI1/BA13/ERXDV (io), 52 PA21/HTVLD (io), 53 PA22/HD2 (io), 54 PA9/HTREQ/TMR0/BWR# (io), 55 PA10/TCK/HTACK (io), 56 PA11/TIO/HTCLK (io), 57 PA12/SCS (io), 58 PA13/SCK (io), 59 PA14/MOSI (io), 60 PA15/MISO (io), 61 VDDIO (power), 62 V33LDO (power), 63 V12CORE (power), 64 V33GX (power), 65 GXM (io), 66 GXP (io), 67 XO (io), 68 XI (in)
2 alternate drawings of the same symbol
text: GPIO/*; E:ETH; M:EMMC; H:HSPI; B:BUS8; G:SERDES

## CH571F
designator U?
RISC-V MCU with BLE/USB/ADC/SPI/2*UART
footprint QFN28_4X4
pins: 0 GND (power), 1 PA11/X32KO/TMR2 (io), 2 PA10/X32KI/TMR1 (io), 3 VDCID (power), 4 VSW (power), 5 VIO33/VDD33 (power), 6 PA8/RXD1 (io), 7 PA9/TMR0/TXD1 (io), 8 PB15/TCK/MISO_/DTR (io), 9 PB14/TIO/MOSI_/DSR (io), 10 PB13/SCK0_/TXD1_ (io), 11 PB12/SCS_/RXD1_ (io), 12 PB11/UD+/TMR2_ (io), 13 PB10/UD-/TMR1_ (io), 14 PB7/TXD0 (io), 15 PB4/RXD0 (io), 16 PB23/RST#/TMR0_ (io), 17 PB22/TMR3 (io), 18 X32MO (out), 19 X32MI (in), 20 VINTA (power), 21 ANT (io), 22 VDCIA (power), 23 PA4/AIN0 (io), 24 PA5/AIN1 (io), 25 PA15/MISO/RXD0_/AIN5 (io), 26 PA14/MOSI/TXD0_/AIN4 (io), 27 PA13/SCK0/AIN3 (io), 28 PA12/SCS/AIN2 (io)
2 alternate drawings of the same symbol

## CH571K
designator U?
RISC-V MCU with BLE/ADC/SPI/UART
footprint ESSOP10 (Footprint not found)
pins: 0 GND (power), 1 PA12/SCS/AIN2 (io), 2 VDD33 (power), 3 GND (power), 4 X32MI (in), 5 X32MO (out), 6 ANT (io), 7 VINTA (power), 8 PA15/MISO/RXD0_/AIN5 (io), 9 PA14/MOSI/TXD0_/AIN4 (io), 10 PA13/SCK0/AIN3 (io)
2 alternate drawings of the same symbol

## CH571R
designator U?
RISC-V MCU with BLE/USB/ADC/SPI/2*UART
footprint TSSOP16 (Footprint not found)
pins: 1 PA15/MISO/RXD0_/AIN5 (io), 2 PA14/MOSI/TXD0_/AIN4 (io), 3 PA13/SCK0/AIN3 (io), 4 PA12/SCS/AIN2 (io), 5 VIO33/VDD33 (power), 6 PA8/RXD1 (io), 7 PA9/TMR0/TXD1 (io), 8 PB11/UD+/TMR2_ (io), 9 PB10/UD-/TMR1_ (io), 10 PB23/RST#/TMR0_ (io), 11 PB22/TMR3 (io), 12 X32MO (out), 13 X32MI (in), 14 VINTA (power), 15 GND (power), 16 ANT (io)
2 alternate drawings of the same symbol

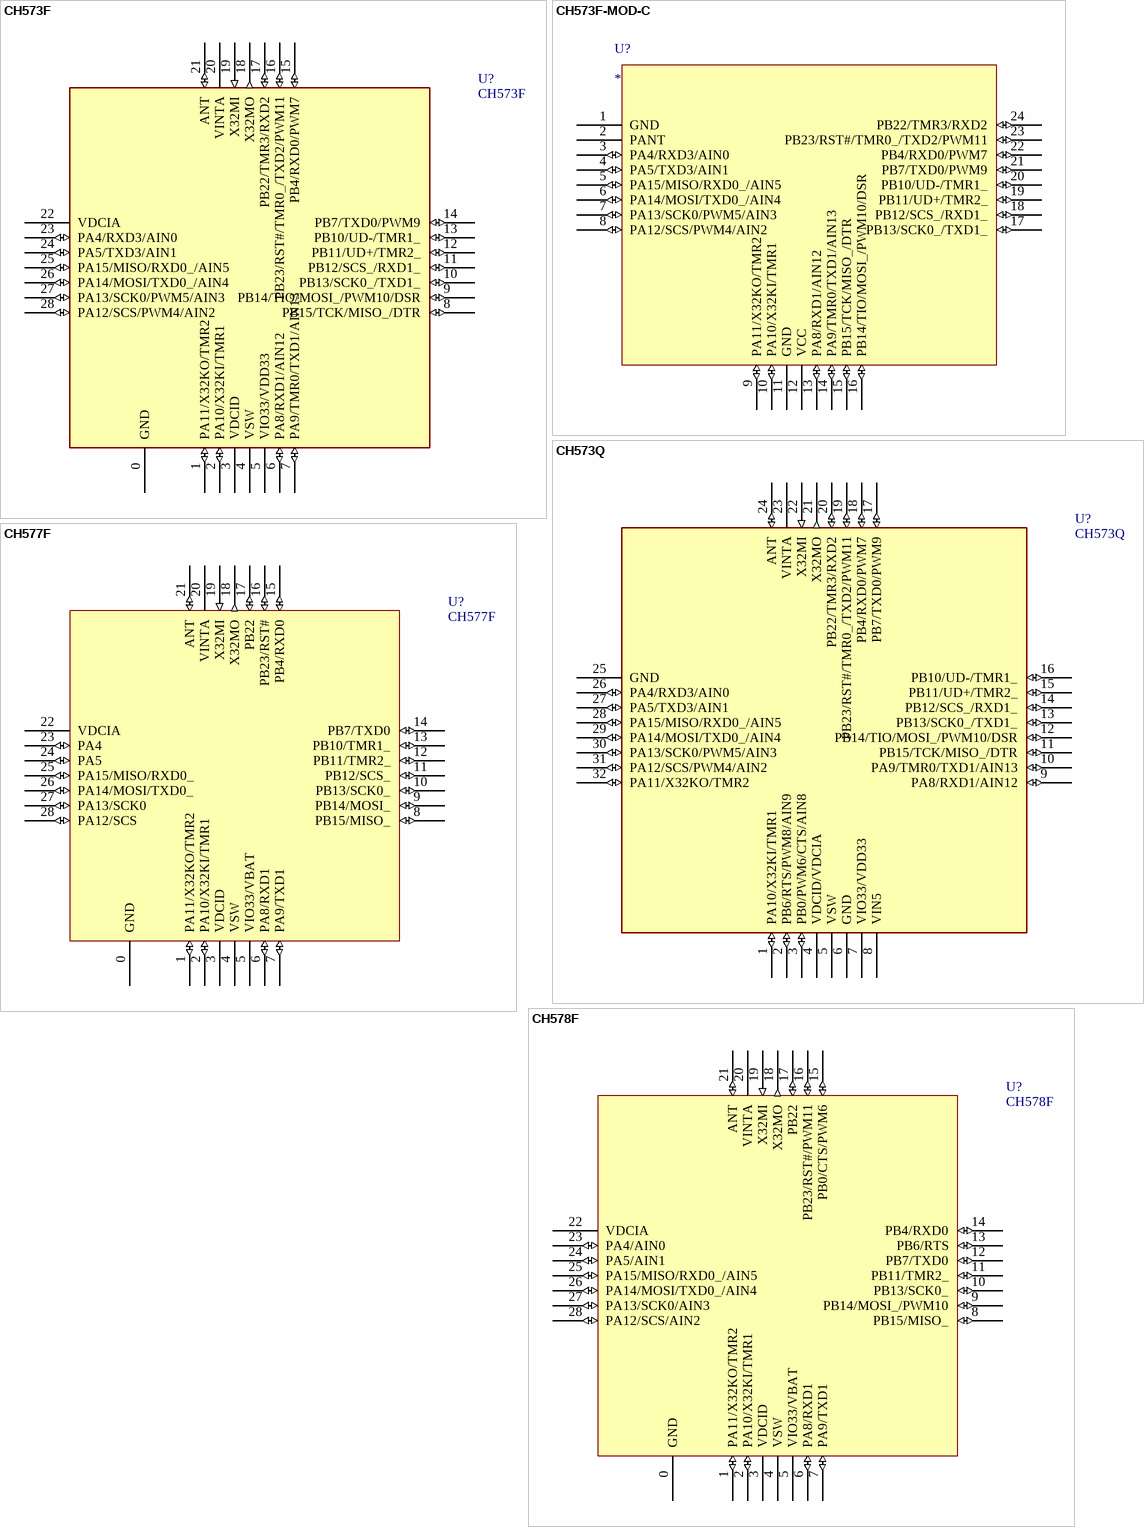
[diagram p50: symbols CH573F to CH578F]

## CH573F
designator U?
RISC-V MCU with BLE/USB/ADC/SPI/4*UART
footprint QFN28_4X4
pins: 0 GND (power), 1 PA11/X32KO/TMR2 (io), 2 PA10/X32KI/TMR1 (io), 3 VDCID (power), 4 VSW (power), 5 VIO33/VDD33 (power), 6 PA8/RXD1/AIN12 (io), 7 PA9/TMR0/TXD1/AIN13 (io), 8 PB15/TCK/MISO_/DTR (io), 9 PB14/TIO/MOSI_/PWM10/DSR (io), 10 PB13/SCK0_/TXD1_ (io), 11 PB12/SCS_/RXD1_ (io), 12 PB11/UD+/TMR2_ (io), 13 PB10/UD-/TMR1_ (io), 14 PB7/TXD0/PWM9 (io), 15 PB4/RXD0/PWM7 (io), 16 PB23/RST#/TMR0_/TXD2/PWM11 (io), 17 PB22/TMR3/RXD2 (io), 18 X32MO (out), 19 X32MI (in), 20 VINTA (power), 21 ANT (io), 22 VDCIA (power), 23 PA4/RXD3/AIN0 (io), 24 PA5/TXD3/AIN1 (io), 25 PA15/MISO/RXD0_/AIN5 (io), 26 PA14/MOSI/TXD0_/AIN4 (io), 27 PA13/SCK0/PWM5/AIN3 (io), 28 PA12/SCS/PWM4/AIN2 (io)
2 alternate drawings of the same symbol

## CH573F-MOD-C
designator U?
CH573F module, RISC-V MCU with BLE/USB/ADC/SPI/4*UART
footprint BLEMOD-R2-1v0-24PIN
pins: 1 GND (power), 2 PANT, 3 PA4/RXD3/AIN0  (io), 4 PA5/TXD3/AIN1   (io), 5 PA15/MISO/RXD0_/AIN5   (io), 6 PA14/MOSI/TXD0_/AIN4 (io), 7 PA13/SCK0/PWM5/AIN3   (io), 8 PA12/SCS/PWM4/AIN2   (io), 9 PA11/X32KO/TMR2   (io), 10 PA10/X32KI/TMR1   (io), 11 GND (power), 12 VCC (power), 13 PA8/RXD1/AIN12   (io), 14 PA9/TMR0/TXD1/AIN13  (io), 15 PB15/TCK/MISO_/DTR (io), 16 PB14/TIO/MOSI_/PWM10/DSR (io), 17 PB13/SCK0_/TXD1_ (io), 18 PB12/SCS_/RXD1_ (io), 19 PB11/UD+/TMR2_ (io), 20 PB10/UD-/TMR1_ (io), 21 PB7/TXD0/PWM9 (io), 22 PB4/RXD0/PWM7 (io), 23 PB23/RST#/TMR0_/TXD2/PWM11 (io), 24 PB22/TMR3/RXD2 (io)

## CH573Q
designator U?
RISC-V MCU with BLE/USB/ADC/SPI/4*UART
footprint LQFP32 (Footprint not found)
pins: 1 PA10/X32KI/TMR1 (io), 2 PB6/RTS/PWM8/AIN9 (io), 3 PB0/PWM6/CTS/AIN8 (io), 4 VDCID/VDCIA (power), 5 VSW (power), 6 GND (power), 7 VIO33/VDD33 (power), 8 VIN5 (power), 9 PA8/RXD1/AIN12 (io), 10 PA9/TMR0/TXD1/AIN13 (io), 11 PB15/TCK/MISO_/DTR (io), 12 PB14/TIO/MOSI_/PWM10/DSR (io), 13 PB13/SCK0_/TXD1_ (io), 14 PB12/SCS_/RXD1_ (io), 15 PB11/UD+/TMR2_ (io), 16 PB10/UD-/TMR1_ (io), 17 PB7/TXD0/PWM9 (io), 18 PB4/RXD0/PWM7 (io), 19 PB23/RST#/TMR0_/TXD2/PWM11 (io), 20 PB22/TMR3/RXD2 (io), 21 X32MO (out), 22 X32MI (in), 23 VINTA (power), 24 ANT (io), 25 GND (power), 26 PA4/RXD3/AIN0 (io), 27 PA5/TXD3/AIN1 (io), 28 PA15/MISO/RXD0_/AIN5 (io), 29 PA14/MOSI/TXD0_/AIN4 (io), 30 PA13/SCK0/PWM5/AIN3 (io), 31 PA12/SCS/PWM4/AIN2 (io), 32 PA11/X32KO/TMR2 (io)
2 alternate drawings of the same symbol

## CH577F
designator U?
ARM M0 MCU with Bluetooth-LowEnergy+doubleUART+SPI
footprint QFN28_4X4
pins: 0 GND (power), 1 PA11/X32KO/TMR2 (io), 2 PA10/X32KI/TMR1 (io), 3 VDCID (power), 4 VSW (power), 5 VIO33/VBAT (power), 6 PA8/RXD1 (io), 7 PA9/TXD1 (io), 8 PB15/MISO_ (io), 9 PB14/MOSI_ (io), 10 PB13/SCK0_ (io), 11 PB12/SCS_ (io), 12 PB11/TMR2_ (io), 13 PB10/TMR1_ (io), 14 PB7/TXD0 (io), 15 PB4/RXD0 (io), 16 PB23/RST# (io), 17 PB22 (io), 18 X32MO (out), 19 X32MI (in), 20 VINTA (power), 21 ANT (io), 22 VDCIA (power), 23 PA4 (io), 24 PA5 (io), 25 PA15/MISO/RXD0_ (io), 26 PA14/MOSI/TXD0_ (io), 27 PA13/SCK0 (io), 28 PA12/SCS (io)

## CH578F
designator U?
ARM M0 MCU with Bluetooth-LowEnergy+doubleUART+SPI+ADC
footprint QFN28_4X4
pins: 0 GND (power), 1 PA11/X32KO/TMR2 (io), 2 PA10/X32KI/TMR1 (io), 3 VDCID (power), 4 VSW (power), 5 VIO33/VBAT (power), 6 PA8/RXD1 (io), 7 PA9/TXD1 (io), 8 PB15/MISO_ (io), 9 PB14/MOSI_/PWM10 (io), 10 PB13/SCK0_ (io), 11 PB11/TMR2_ (io), 12 PB7/TXD0 (io), 13 PB6/RTS (io), 14 PB4/RXD0 (io), 15 PB0/CTS/PWM6 (io), 16 PB23/RST#/PWM11 (io), 17 PB22 (io), 18 X32MO (out), 19 X32MI (in), 20 VINTA (power), 21 ANT (io), 22 VDCIA (power), 23 PA4/AIN0 (io), 24 PA5/AIN1 (io), 25 PA15/MISO/RXD0_/AIN5 (io), 26 PA14/MOSI/TXD0_/AIN4 (io), 27 PA13/SCK0/AIN3 (io), 28 PA12/SCS/AIN2 (io)

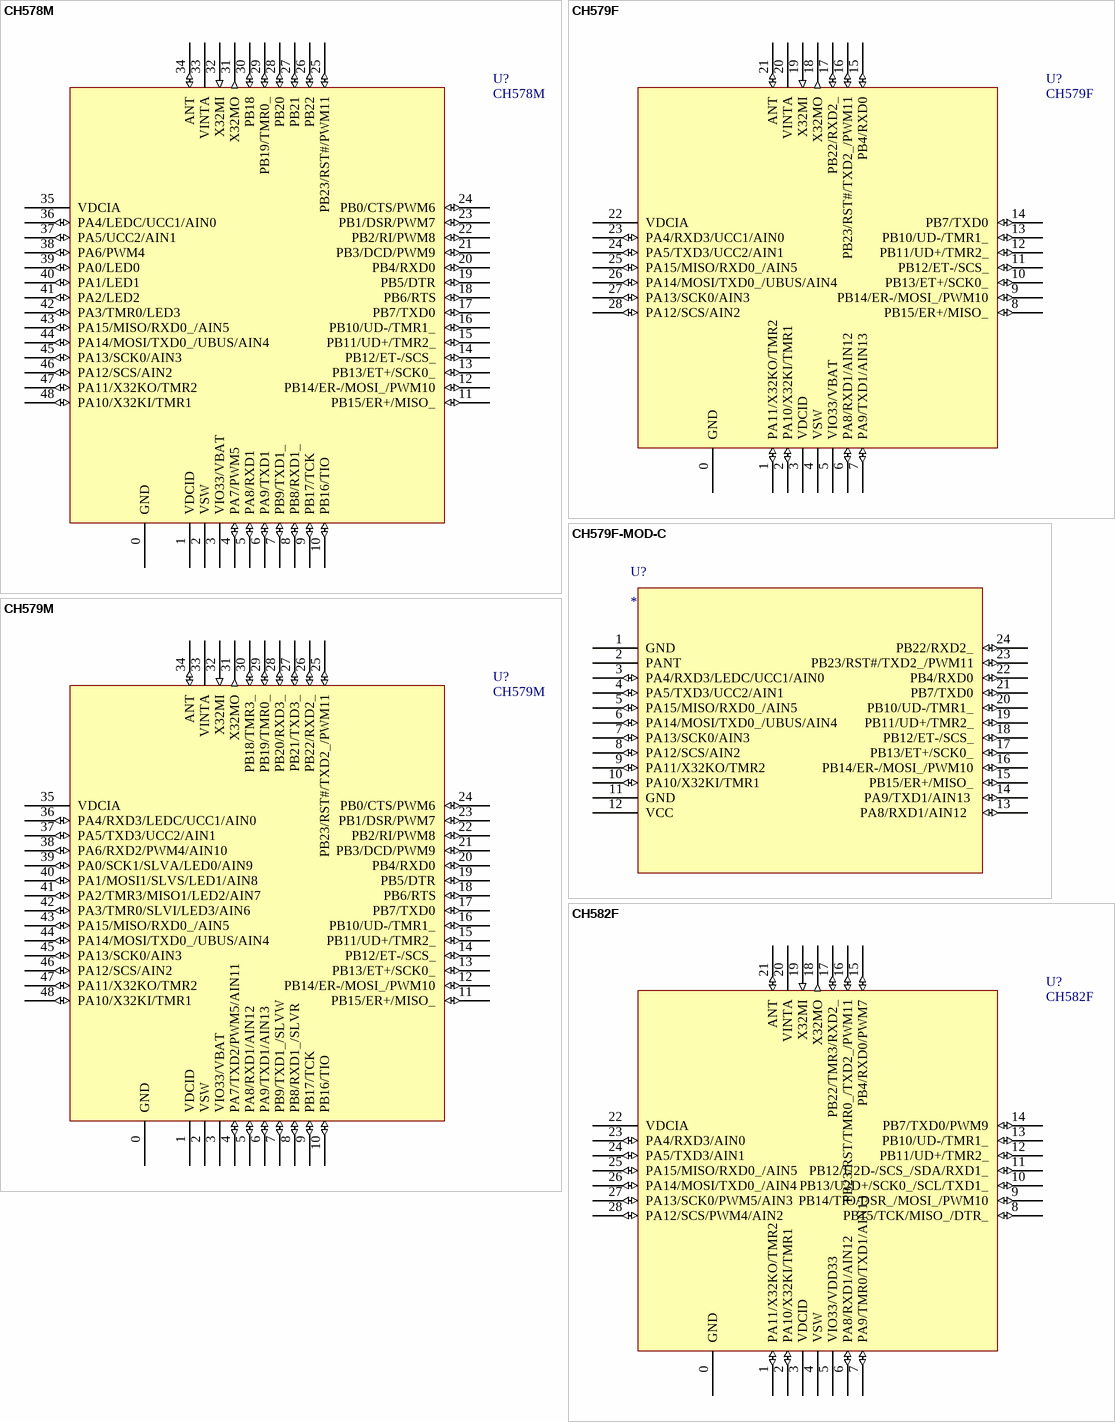
[diagram p51: symbols CH578M to CH582F]

## CH578M
designator U?
ARM M0 MCU with Bluetooth-LowEnergy+Ethernet+USB+segment-LCD
footprint QFN48_5X5
pins: 0 GND (power), 1 VDCID (power), 2 VSW (power), 3 VIO33/VBAT (power), 4 PA7/PWM5 (io), 5 PA8/RXD1 (io), 6 PA9/TXD1 (io), 7 PB9/TXD1_ (io), 8 PB8/RXD1_ (io), 9 PB17/TCK (io), 10 PB16/TIO (io), 11 PB15/ER+/MISO_ (io), 12 PB14/ER-/MOSI_/PWM10 (io), 13 PB13/ET+/SCK0_ (io), 14 PB12/ET-/SCS_ (io), 15 PB11/UD+/TMR2_ (io), 16 PB10/UD-/TMR1_ (io), 17 PB7/TXD0 (io), 18 PB6/RTS (io), 19 PB5/DTR (io), 20 PB4/RXD0 (io), 21 PB3/DCD/PWM9 (io), 22 PB2/RI/PWM8 (io), 23 PB1/DSR/PWM7 (io), 24 PB0/CTS/PWM6 (io), 25 PB23/RST#/PWM11 (io), 26 PB22 (io), 27 PB21 (io), 28 PB20 (io), 29 PB19/TMR0_ (io), 30 PB18 (io), 31 X32MO (out), 32 X32MI (in), 33 VINTA (power), 34 ANT (io), 35 VDCIA (power), 36 PA4/LEDC/UCC1/AIN0 (io), 37 PA5/UCC2/AIN1 (io), 38 PA6/PWM4 (io), 39 PA0/LED0 (io), 40 PA1/LED1 (io), 41 PA2/LED2 (io), 42 PA3/TMR0/LED3 (io), 43 PA15/MISO/RXD0_/AIN5 (io), 44 PA14/MOSI/TXD0_/UBUS/AIN4 (io), 45 PA13/SCK0/AIN3 (io), 46 PA12/SCS/AIN2 (io), 47 PA11/X32KO/TMR2 (io), 48 PA10/X32KI/TMR1 (io)

## CH579F
designator U?
ARM M0 MCU with Bluetooth-LowEnergy+Ethernet+USB Host/Device
footprint QFN28_4X4
pins: 0 GND (power), 1 PA11/X32KO/TMR2 (io), 2 PA10/X32KI/TMR1 (io), 3 VDCID (power), 4 VSW (power), 5 VIO33/VBAT (power), 6 PA8/RXD1/AIN12 (io), 7 PA9/TXD1/AIN13 (io), 8 PB15/ER+/MISO_ (io), 9 PB14/ER-/MOSI_/PWM10 (io), 10 PB13/ET+/SCK0_ (io), 11 PB12/ET-/SCS_ (io), 12 PB11/UD+/TMR2_ (io), 13 PB10/UD-/TMR1_ (io), 14 PB7/TXD0 (io), 15 PB4/RXD0 (io), 16 PB23/RST#/TXD2_/PWM11 (io), 17 PB22/RXD2_ (io), 18 X32MO (out), 19 X32MI (in), 20 VINTA (power), 21 ANT (io), 22 VDCIA (power), 23 PA4/RXD3/UCC1/AIN0 (io), 24 PA5/TXD3/UCC2/AIN1 (io), 25 PA15/MISO/RXD0_/AIN5 (io), 26 PA14/MOSI/TXD0_/UBUS/AIN4 (io), 27 PA13/SCK0/AIN3 (io), 28 PA12/SCS/AIN2 (io)

## CH579F-MOD-C
designator U?
CH579F module, ARM M0 MCU with BLE+Ethernet+USB Host/Device
footprint BLEMOD-R2-1v0-24PIN
pins: 1 GND (power), 2 PANT, 3 PA4/RXD3/LEDC/UCC1/AIN0  (io), 4 PA5/TXD3/UCC2/AIN1   (io), 5 PA15/MISO/RXD0_/AIN5   (io), 6 PA14/MOSI/TXD0_/UBUS/AIN4 (io), 7 PA13/SCK0/AIN3   (io), 8 PA12/SCS/AIN2   (io), 9 PA11/X32KO/TMR2   (io), 10 PA10/X32KI/TMR1   (io), 11 GND (power), 12 VCC (power), 13 PA8/RXD1/AIN12   (io), 14 PA9/TXD1/AIN13  (io), 15 PB15/ER+/MISO_ (io), 16 PB14/ER-/MOSI_/PWM10 (io), 17 PB13/ET+/SCK0_ (io), 18 PB12/ET-/SCS_ (io), 19 PB11/UD+/TMR2_ (io), 20 PB10/UD-/TMR1_ (io), 21 PB7/TXD0 (io), 22 PB4/RXD0 (io), 23 PB23/RST#/TXD2_/PWM11 (io), 24 PB22/RXD2_ (io)

## CH579M
designator U?
ARM M0 MCU with Bluetooth-LowEnergy+Ethernet+USB+segment-LCD
footprint QFN48_5X5
pins: 0 GND (power), 1 VDCID (power), 2 VSW (power), 3 VIO33/VBAT (power), 4 PA7/TXD2/PWM5/AIN11 (io), 5 PA8/RXD1/AIN12 (io), 6 PA9/TXD1/AIN13 (io), 7 PB9/TXD1_/SLVW (io), 8 PB8/RXD1_/SLVR (io), 9 PB17/TCK (io), 10 PB16/TIO (io), 11 PB15/ER+/MISO_ (io), 12 PB14/ER-/MOSI_/PWM10 (io), 13 PB13/ET+/SCK0_ (io), 14 PB12/ET-/SCS_ (io), 15 PB11/UD+/TMR2_ (io), 16 PB10/UD-/TMR1_ (io), 17 PB7/TXD0 (io), 18 PB6/RTS (io), 19 PB5/DTR (io), 20 PB4/RXD0 (io), 21 PB3/DCD/PWM9 (io), 22 PB2/RI/PWM8 (io), 23 PB1/DSR/PWM7 (io), 24 PB0/CTS/PWM6 (io), 25 PB23/RST#/TXD2_/PWM11 (io), 26 PB22/RXD2_ (io), 27 PB21/TXD3_ (io), 28 PB20/RXD3_ (io), 29 PB19/TMR0_ (io), 30 PB18/TMR3_ (io), 31 X32MO (out), 32 X32MI (in), 33 VINTA (power), 34 ANT (io), 35 VDCIA (power), 36 PA4/RXD3/LEDC/UCC1/AIN0 (io), 37 PA5/TXD3/UCC2/AIN1 (io), 38 PA6/RXD2/PWM4/AIN10 (io), 39 PA0/SCK1/SLVA/LED0/AIN9 (io), 40 PA1/MOSI1/SLVS/LED1/AIN8 (io), 41 PA2/TMR3/MISO1/LED2/AIN7 (io), 42 PA3/TMR0/SLVI/LED3/AIN6 (io), 43 PA15/MISO/RXD0_/AIN5 (io), 44 PA14/MOSI/TXD0_/UBUS/AIN4 (io), 45 PA13/SCK0/AIN3 (io), 46 PA12/SCS/AIN2 (io), 47 PA11/X32KO/TMR2 (io), 48 PA10/X32KI/TMR1 (io)

## CH582F
designator U?
RISC-V MCU with BLE/2*USB/ADC/PWM/SPI/I2C/4*UART
footprint QFN28_4X4
pins: 0 GND (power), 1 PA11/X32KO/TMR2 (io), 2 PA10/X32KI/TMR1 (io), 3 VDCID (power), 4 VSW (power), 5 VIO33/VDD33 (power), 6 PA8/RXD1/AIN12 (io), 7 PA9/TMR0/TXD1/AIN13 (io), 8 PB15/TCK/MISO_/DTR_ (io), 9 PB14/TIO/DSR_/MOSI_/PWM10 (io), 10 PB13/U2D+/SCK0_/SCL/TXD1_ (io), 11 PB12/U2D-/SCS_/SDA/RXD1_ (io), 12 PB11/UD+/TMR2_ (io), 13 PB10/UD-/TMR1_ (io), 14 PB7/TXD0/PWM9 (io), 15 PB4/RXD0/PWM7 (io), 16 PB23/RST/TMR0_/TXD2_/PWM11 (io), 17 PB22/TMR3/RXD2_ (io), 18 X32MO (out), 19 X32MI (in), 20 VINTA (power), 21 ANT (io), 22 VDCIA (power), 23 PA4/RXD3/AIN0 (io), 24 PA5/TXD3/AIN1 (io), 25 PA15/MISO/RXD0_/AIN5 (io), 26 PA14/MOSI/TXD0_/AIN4 (io), 27 PA13/SCK0/PWM5/AIN3 (io), 28 PA12/SCS/PWM4/AIN2 (io)

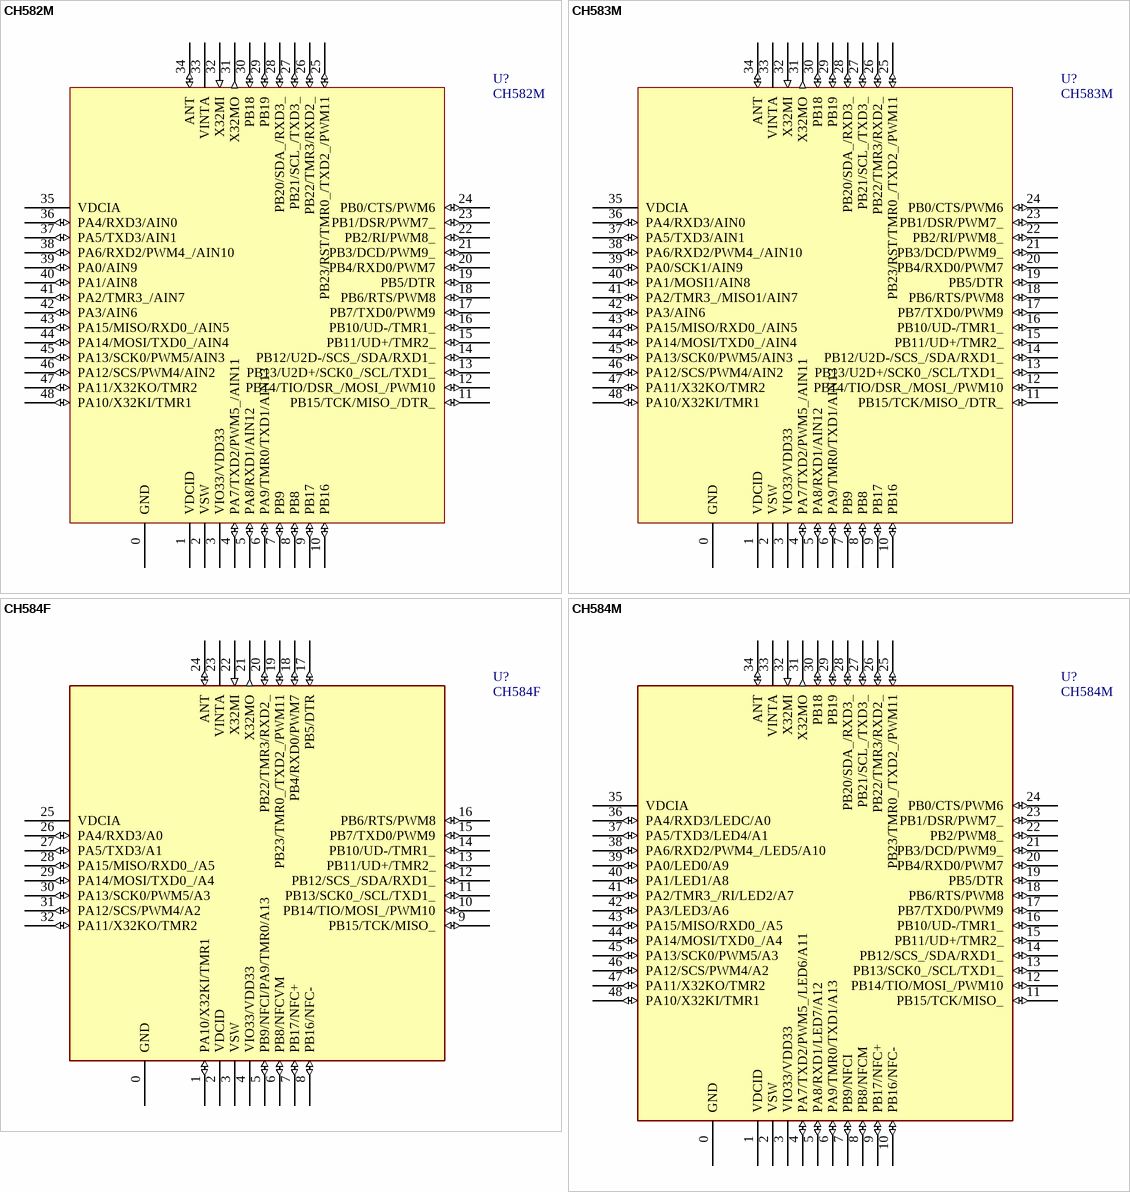
[diagram p52: symbols CH582M to CH584M]

## CH582M
designator U?
RISC-V MCU with BLE/2*USB/ADC/PWM/SPI/I2C/4*UART
footprint QFN48_5X5
pins: 0 GND (power), 1 VDCID (power), 2 VSW (power), 3 VIO33/VDD33 (power), 4 PA7/TXD2/PWM5_/AIN11 (io), 5 PA8/RXD1/AIN12 (io), 6 PA9/TMR0/TXD1/AIN13 (io), 7 PB9 (io), 8 PB8 (io), 9 PB17 (io), 10 PB16 (io), 11 PB15/TCK/MISO_/DTR_ (io), 12 PB14/TIO/DSR_/MOSI_/PWM10 (io), 13 PB13/U2D+/SCK0_/SCL/TXD1_ (io), 14 PB12/U2D-/SCS_/SDA/RXD1_ (io), 15 PB11/UD+/TMR2_ (io), 16 PB10/UD-/TMR1_ (io), 17 PB7/TXD0/PWM9 (io), 18 PB6/RTS/PWM8 (io), 19 PB5/DTR (io), 20 PB4/RXD0/PWM7 (io), 21 PB3/DCD/PWM9_ (io), 22 PB2/RI/PWM8_ (io), 23 PB1/DSR/PWM7_ (io), 24 PB0/CTS/PWM6 (io), 25 PB23/RST/TMR0_/TXD2_/PWM11 (io), 26 PB22/TMR3/RXD2_ (io), 27 PB21/SCL_/TXD3_ (io), 28 PB20/SDA_/RXD3_ (io), 29 PB19 (io), 30 PB18 (io), 31 X32MO (out), 32 X32MI (in), 33 VINTA (power), 34 ANT (io), 35 VDCIA (power), 36 PA4/RXD3/AIN0 (io), 37 PA5/TXD3/AIN1 (io), 38 PA6/RXD2/PWM4_/AIN10 (io), 39 PA0/AIN9 (io), 40 PA1/AIN8 (io), 41 PA2/TMR3_/AIN7 (io), 42 PA3/AIN6 (io), 43 PA15/MISO/RXD0_/AIN5 (io), 44 PA14/MOSI/TXD0_/AIN4 (io), 45 PA13/SCK0/PWM5/AIN3 (io), 46 PA12/SCS/PWM4/AIN2 (io), 47 PA11/X32KO/TMR2 (io), 48 PA10/X32KI/TMR1 (io)

## CH583M
designator U?
RISC-V MCU with BLE/2*USB/ADC/PWM/SPI/I2C/4*UART
footprint QFN48_5X5
pins: 0 GND (power), 1 VDCID (power), 2 VSW (power), 3 VIO33/VDD33 (power), 4 PA7/TXD2/PWM5_/AIN11 (io), 5 PA8/RXD1/AIN12 (io), 6 PA9/TMR0/TXD1/AIN13 (io), 7 PB9 (io), 8 PB8 (io), 9 PB17 (io), 10 PB16 (io), 11 PB15/TCK/MISO_/DTR_ (io), 12 PB14/TIO/DSR_/MOSI_/PWM10 (io), 13 PB13/U2D+/SCK0_/SCL/TXD1_ (io), 14 PB12/U2D-/SCS_/SDA/RXD1_ (io), 15 PB11/UD+/TMR2_ (io), 16 PB10/UD-/TMR1_ (io), 17 PB7/TXD0/PWM9 (io), 18 PB6/RTS/PWM8 (io), 19 PB5/DTR (io), 20 PB4/RXD0/PWM7 (io), 21 PB3/DCD/PWM9_ (io), 22 PB2/RI/PWM8_ (io), 23 PB1/DSR/PWM7_ (io), 24 PB0/CTS/PWM6 (io), 25 PB23/RST/TMR0_/TXD2_/PWM11 (io), 26 PB22/TMR3/RXD2_ (io), 27 PB21/SCL_/TXD3_ (io), 28 PB20/SDA_/RXD3_ (io), 29 PB19 (io), 30 PB18 (io), 31 X32MO (out), 32 X32MI (in), 33 VINTA (power), 34 ANT (io), 35 VDCIA (power), 36 PA4/RXD3/AIN0 (io), 37 PA5/TXD3/AIN1 (io), 38 PA6/RXD2/PWM4_/AIN10 (io), 39 PA0/SCK1/AIN9 (io), 40 PA1/MOSI1/AIN8 (io), 41 PA2/TMR3_/MISO1/AIN7 (io), 42 PA3/AIN6 (io), 43 PA15/MISO/RXD0_/AIN5 (io), 44 PA14/MOSI/TXD0_/AIN4 (io), 45 PA13/SCK0/PWM5/AIN3 (io), 46 PA12/SCS/PWM4/AIN2 (io), 47 PA11/X32KO/TMR2 (io), 48 PA10/X32KI/TMR1 (io)

## CH584F
designator U?
RISC-V MCU with BLE/USB/NFC/ADC/PWM/SPI/I2C/4*UART/LCD
footprint QFN32_4X4
pins: 0 GND (power), 1 PA10/X32KI/TMR1 (io), 2 VDCID (power), 3 VSW (power), 4 VIO33/VDD33 (power), 5 PB9/NFCI/PA9/TMR0/A13 (io), 6 PB8/NFCVM (io), 7 PB17/NFC+ (io), 8 PB16/NFC- (io), 9 PB15/TCK/MISO_ (io), 10 PB14/TIO/MOSI_/PWM10 (io), 11 PB13/SCK0_/SCL/TXD1_ (io), 12 PB12/SCS_/SDA/RXD1_ (io), 13 PB11/UD+/TMR2_ (io), 14 PB10/UD-/TMR1_ (io), 15 PB7/TXD0/PWM9 (io), 16 PB6/RTS/PWM8 (io), 17 PB5/DTR (io), 18 PB4/RXD0/PWM7 (io), 19 PB23/TMR0_/TXD2_/PWM11 (io), 20 PB22/TMR3/RXD2_ (io), 21 X32MO (out), 22 X32MI (in), 23 VINTA (power), 24 ANT (io), 25 VDCIA (power), 26 PA4/RXD3/A0 (io), 27 PA5/TXD3/A1 (io), 28 PA15/MISO/RXD0_/A5 (io), 29 PA14/MOSI/TXD0_/A4 (io), 30 PA13/SCK0/PWM5/A3 (io), 31 PA12/SCS/PWM4/A2 (io), 32 PA11/X32KO/TMR2 (io)
2 alternate drawings of the same symbol

## CH584M
designator U?
RISC-V MCU with BLE/USB/NFC/ADC/PWM/SPI/I2C/4*UART/LCD
footprint QFN48_5X5
pins: 0 GND (power), 1 VDCID (power), 2 VSW (power), 3 VIO33/VDD33 (power), 4 PA7/TXD2/PWM5_/LED6/A11 (io), 5 PA8/RXD1/LED7/A12 (io), 6 PA9/TMR0/TXD1/A13 (io), 7 PB9/NFCI (io), 8 PB8/NFCM (io), 9 PB17/NFC+ (io), 10 PB16/NFC- (io), 11 PB15/TCK/MISO_ (io), 12 PB14/TIO/MOSI_/PWM10 (io), 13 PB13/SCK0_/SCL/TXD1_ (io), 14 PB12/SCS_/SDA/RXD1_ (io), 15 PB11/UD+/TMR2_ (io), 16 PB10/UD-/TMR1_ (io), 17 PB7/TXD0/PWM9 (io), 18 PB6/RTS/PWM8 (io), 19 PB5/DTR (io), 20 PB4/RXD0/PWM7 (io), 21 PB3/DCD/PWM9_ (io), 22 PB2/PWM8_ (io), 23 PB1/DSR/PWM7_ (io), 24 PB0/CTS/PWM6 (io), 25 PB23/TMR0_/TXD2_/PWM11 (io), 26 PB22/TMR3/RXD2_ (io), 27 PB21/SCL_/TXD3_ (io), 28 PB20/SDA_/RXD3_ (io), 29 PB19 (io), 30 PB18 (io), 31 X32MO (out), 32 X32MI (in), 33 VINTA (power), 34 ANT (io), 35 VDCIA (power), 36 PA4/RXD3/LEDC/A0 (io), 37 PA5/TXD3/LED4/A1 (io), 38 PA6/RXD2/PWM4_/LED5/A10 (io), 39 PA0/LED0/A9 (io), 40 PA1/LED1/A8 (io), 41 PA2/TMR3_/RI/LED2/A7 (io), 42 PA3/LED3/A6 (io), 43 PA15/MISO/RXD0_/A5 (io), 44 PA14/MOSI/TXD0_/A4 (io), 45 PA13/SCK0/PWM5/A3 (io), 46 PA12/SCS/PWM4/A2 (io), 47 PA11/X32KO/TMR2 (io), 48 PA10/X32KI/TMR1 (io)
2 alternate drawings of the same symbol

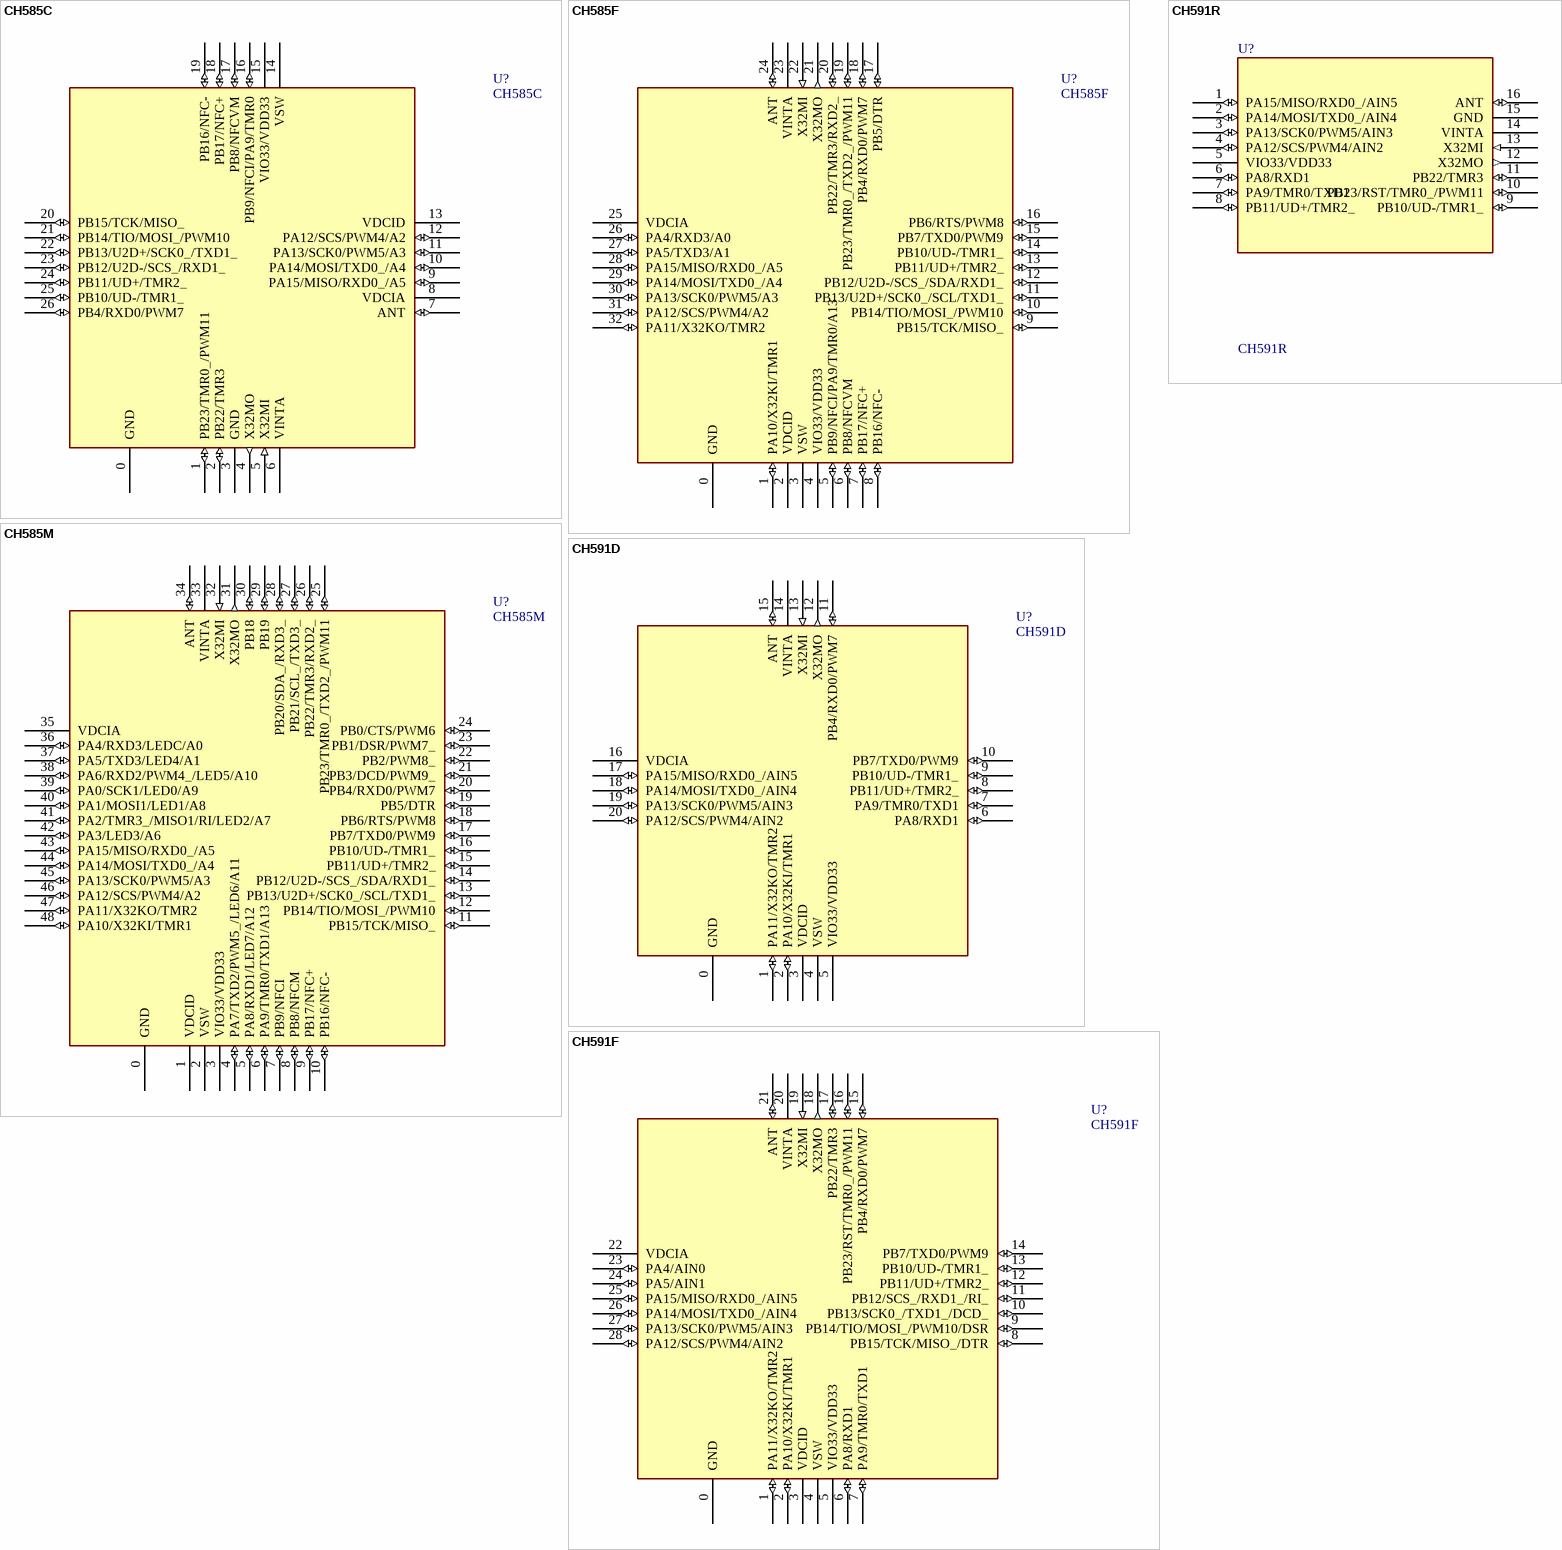
[diagram p53: symbols CH585C to CH591R]

## CH585C
designator U?
RISC-V MCU with BLE/HSUSB/USB/NFC/ADC/PWM/SPI/2*UART
footprint QFN26C_3X3
pins: 0 GND (power), 1 PB23/TMR0_/PWM11 (io), 2 PB22/TMR3 (io), 3 GND (power), 4 X32MO (out), 5 X32MI (in), 6 VINTA (power), 7 ANT (io), 8 VDCIA (power), 9 PA15/MISO/RXD0_/A5 (io), 10 PA14/MOSI/TXD0_/A4 (io), 11 PA13/SCK0/PWM5/A3 (io), 12 PA12/SCS/PWM4/A2 (io), 13 VDCID (power), 14 VSW (power), 15 VIO33/VDD33 (power), 16 PB9/NFCI/PA9/TMR0 (io), 17 PB8/NFCVM (io), 18 PB17/NFC+ (io), 19 PB16/NFC- (io), 20 PB15/TCK/MISO_ (io), 21 PB14/TIO/MOSI_/PWM10 (io), 22 PB13/U2D+/SCK0_/TXD1_ (io), 23 PB12/U2D-/SCS_/RXD1_ (io), 24 PB11/UD+/TMR2_ (io), 25 PB10/UD-/TMR1_ (io), 26 PB4/RXD0/PWM7 (io)
2 alternate drawings of the same symbol

## CH585F
designator U?
RISC-V MCU with BLE/HSUSB/USB/NFC/ADC/PWM/SPI/I2C/4*UART/LCD
footprint QFN32_4X4
pins: 0 GND (power), 1 PA10/X32KI/TMR1 (io), 2 VDCID (power), 3 VSW (power), 4 VIO33/VDD33 (power), 5 PB9/NFCI/PA9/TMR0/A13 (io), 6 PB8/NFCVM (io), 7 PB17/NFC+ (io), 8 PB16/NFC- (io), 9 PB15/TCK/MISO_ (io), 10 PB14/TIO/MOSI_/PWM10 (io), 11 PB13/U2D+/SCK0_/SCL/TXD1_ (io), 12 PB12/U2D-/SCS_/SDA/RXD1_ (io), 13 PB11/UD+/TMR2_ (io), 14 PB10/UD-/TMR1_ (io), 15 PB7/TXD0/PWM9 (io), 16 PB6/RTS/PWM8 (io), 17 PB5/DTR (io), 18 PB4/RXD0/PWM7 (io), 19 PB23/TMR0_/TXD2_/PWM11 (io), 20 PB22/TMR3/RXD2_ (io), 21 X32MO (out), 22 X32MI (in), 23 VINTA (power), 24 ANT (io), 25 VDCIA (power), 26 PA4/RXD3/A0 (io), 27 PA5/TXD3/A1 (io), 28 PA15/MISO/RXD0_/A5 (io), 29 PA14/MOSI/TXD0_/A4 (io), 30 PA13/SCK0/PWM5/A3 (io), 31 PA12/SCS/PWM4/A2 (io), 32 PA11/X32KO/TMR2 (io)
2 alternate drawings of the same symbol

## CH585M
designator U?
RISC-V MCU with BLE/HSUSB/USB/NFC/ADC/PWM/2*SPI/I2C/4*UART/LCD
footprint QFN48_5X5
pins: 0 GND (power), 1 VDCID (power), 2 VSW (power), 3 VIO33/VDD33 (power), 4 PA7/TXD2/PWM5_/LED6/A11 (io), 5 PA8/RXD1/LED7/A12 (io), 6 PA9/TMR0/TXD1/A13 (io), 7 PB9/NFCI (io), 8 PB8/NFCM (io), 9 PB17/NFC+ (io), 10 PB16/NFC- (io), 11 PB15/TCK/MISO_ (io), 12 PB14/TIO/MOSI_/PWM10 (io), 13 PB13/U2D+/SCK0_/SCL/TXD1_ (io), 14 PB12/U2D-/SCS_/SDA/RXD1_ (io), 15 PB11/UD+/TMR2_ (io), 16 PB10/UD-/TMR1_ (io), 17 PB7/TXD0/PWM9 (io), 18 PB6/RTS/PWM8 (io), 19 PB5/DTR (io), 20 PB4/RXD0/PWM7 (io), 21 PB3/DCD/PWM9_ (io), 22 PB2/PWM8_ (io), 23 PB1/DSR/PWM7_ (io), 24 PB0/CTS/PWM6 (io), 25 PB23/TMR0_/TXD2_/PWM11 (io), 26 PB22/TMR3/RXD2_ (io), 27 PB21/SCL_/TXD3_ (io), 28 PB20/SDA_/RXD3_ (io), 29 PB19 (io), 30 PB18 (io), 31 X32MO (out), 32 X32MI (in), 33 VINTA (power), 34 ANT (io), 35 VDCIA (power), 36 PA4/RXD3/LEDC/A0 (io), 37 PA5/TXD3/LED4/A1 (io), 38 PA6/RXD2/PWM4_/LED5/A10 (io), 39 PA0/SCK1/LED0/A9 (io), 40 PA1/MOSI1/LED1/A8 (io), 41 PA2/TMR3_/MISO1/RI/LED2/A7 (io), 42 PA3/LED3/A6 (io), 43 PA15/MISO/RXD0_/A5 (io), 44 PA14/MOSI/TXD0_/A4 (io), 45 PA13/SCK0/PWM5/A3 (io), 46 PA12/SCS/PWM4/A2 (io), 47 PA11/X32KO/TMR2 (io), 48 PA10/X32KI/TMR1 (io)
2 alternate drawings of the same symbol

## CH591D
designator U?
RISC-V MCU with BLE/USB/ADC/SPI/2*UART
footprint QFN20_3X3
pins: 0 GND (power), 1 PA11/X32KO/TMR2 (io), 2 PA10/X32KI/TMR1 (io), 3 VDCID (power), 4 VSW (power), 5 VIO33/VDD33 (power), 6 PA8/RXD1 (io), 7 PA9/TMR0/TXD1 (io), 8 PB11/UD+/TMR2_ (io), 9 PB10/UD-/TMR1_ (io), 10 PB7/TXD0/PWM9 (io), 11 PB4/RXD0/PWM7 (io), 12 X32MO (out), 13 X32MI (in), 14 VINTA (power), 15 ANT (io), 16 VDCIA (power), 17 PA15/MISO/RXD0_/AIN5 (io), 18 PA14/MOSI/TXD0_/AIN4 (io), 19 PA13/SCK0/PWM5/AIN3 (io), 20 PA12/SCS/PWM4/AIN2 (io)
2 alternate drawings of the same symbol

## CH591F
designator U?
RISC-V MCU with BLE/USB/ADC/SPI/2*UART/LCD
footprint QFN28_4X4 (Footprint not found)
pins: 0 GND (power), 1 PA11/X32KO/TMR2 (io), 2 PA10/X32KI/TMR1 (io), 3 VDCID (power), 4 VSW (power), 5 VIO33/VDD33 (power), 6 PA8/RXD1 (io), 7 PA9/TMR0/TXD1 (io), 8 PB15/TCK/MISO_/DTR (io), 9 PB14/TIO/MOSI_/PWM10/DSR (io), 10 PB13/SCK0_/TXD1_/DCD_ (io), 11 PB12/SCS_/RXD1_/RI_ (io), 12 PB11/UD+/TMR2_ (io), 13 PB10/UD-/TMR1_ (io), 14 PB7/TXD0/PWM9 (io), 15 PB4/RXD0/PWM7 (io), 16 PB23/RST/TMR0_/PWM11 (io), 17 PB22/TMR3 (io), 18 X32MO (out), 19 X32MI (in), 20 VINTA (power), 21 ANT (io), 22 VDCIA (power), 23 PA4/AIN0 (io), 24 PA5/AIN1 (io), 25 PA15/MISO/RXD0_/AIN5 (io), 26 PA14/MOSI/TXD0_/AIN4 (io), 27 PA13/SCK0/PWM5/AIN3 (io), 28 PA12/SCS/PWM4/AIN2 (io)
2 alternate drawings of the same symbol

## CH591R
designator U?
RISC-V MCU with BLE/USB/ADC/SPI/2*UART
footprint TSSOP16 (Footprint not found)
pins: 1 PA15/MISO/RXD0_/AIN5 (io), 2 PA14/MOSI/TXD0_/AIN4 (io), 3 PA13/SCK0/PWM5/AIN3 (io), 4 PA12/SCS/PWM4/AIN2 (io), 5 VIO33/VDD33 (power), 6 PA8/RXD1 (io), 7 PA9/TMR0/TXD1 (io), 8 PB11/UD+/TMR2_ (io), 9 PB10/UD-/TMR1_ (io), 10 PB23/RST/TMR0_/PWM11 (io), 11 PB22/TMR3 (io), 12 X32MO (out), 13 X32MI (in), 14 VINTA (power), 15 GND (power), 16 ANT (io)
2 alternate drawings of the same symbol

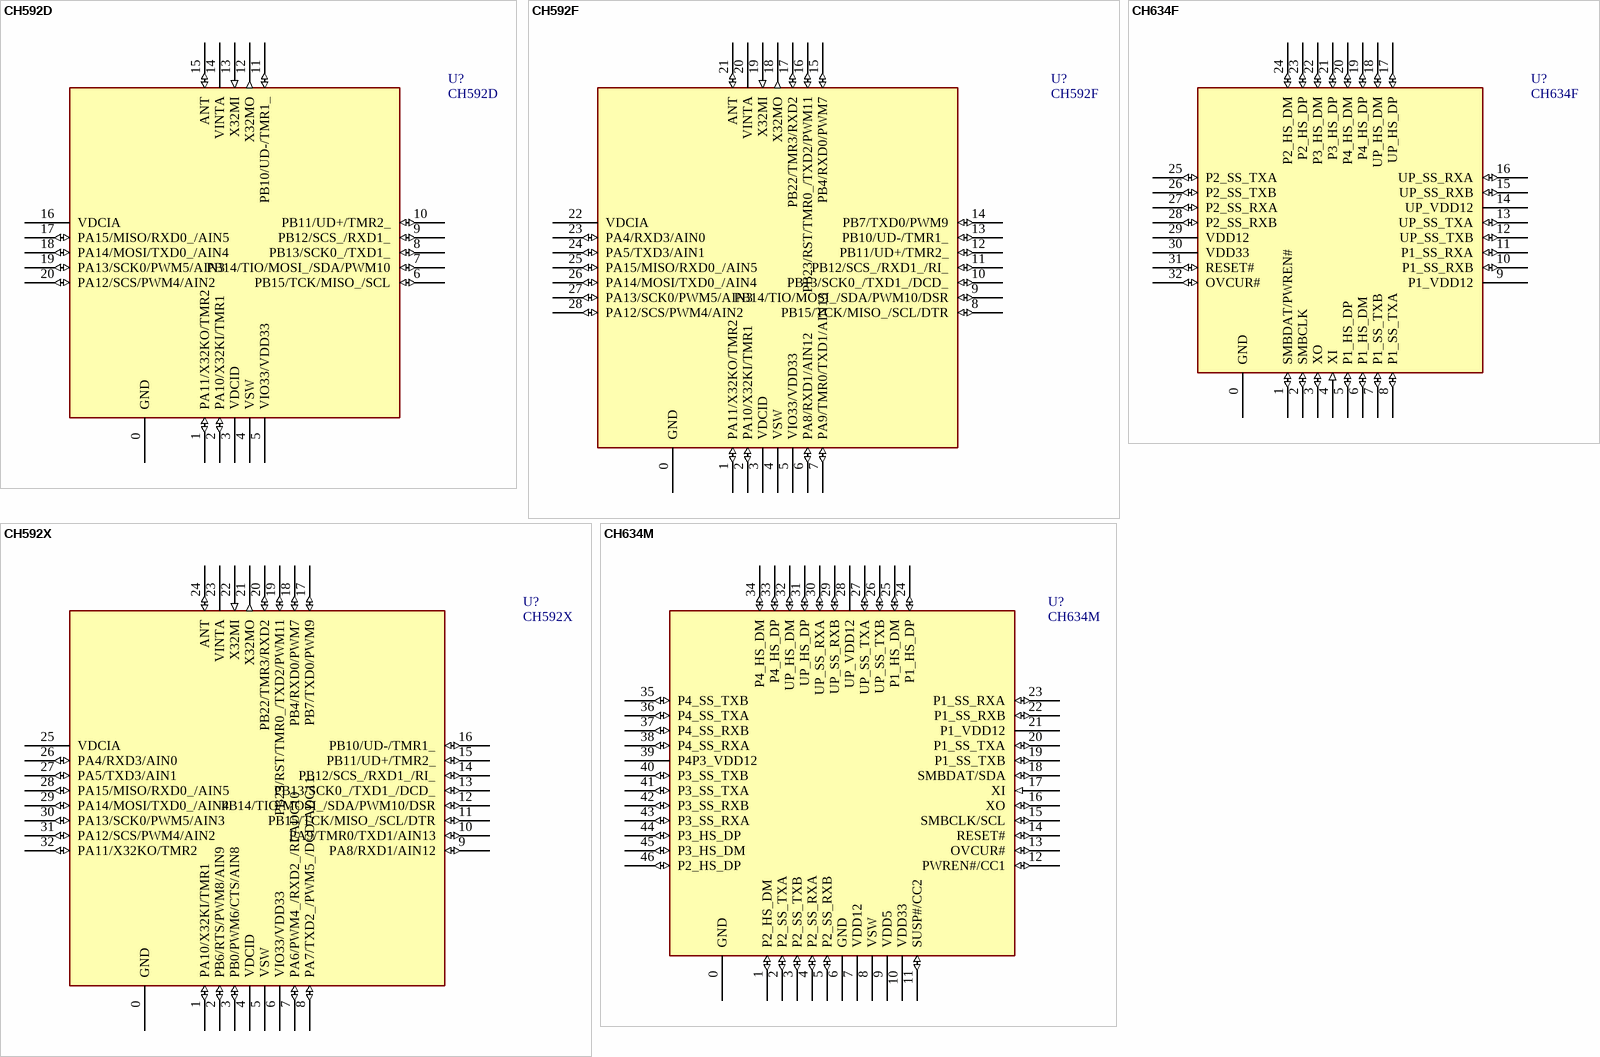
[diagram p54: symbols CH592D to CH634M]

## CH592D
designator U?
RISC-V MCU with BLE/USB/ADC/SPI/2*UART/I2C
footprint QFN20_3X3
pins: 0 GND (power), 1 PA11/X32KO/TMR2 (io), 2 PA10/X32KI/TMR1 (io), 3 VDCID (power), 4 VSW (power), 5 VIO33/VDD33 (power), 6 PB15/TCK/MISO_/SCL (io), 7 PB14/TIO/MOSI_/SDA/PWM10 (io), 8 PB13/SCK0_/TXD1_ (io), 9 PB12/SCS_/RXD1_ (io), 10 PB11/UD+/TMR2_ (io), 11 PB10/UD-/TMR1_ (io), 12 X32MO (out), 13 X32MI (in), 14 VINTA (power), 15 ANT (io), 16 VDCIA (power), 17 PA15/MISO/RXD0_/AIN5 (io), 18 PA14/MOSI/TXD0_/AIN4 (io), 19 PA13/SCK0/PWM5/AIN3 (io), 20 PA12/SCS/PWM4/AIN2 (io)
2 alternate drawings of the same symbol

## CH592F
designator U?
RISC-V MCU with BLE/USB/ADC/SPI/4*UART/I2C/LCD
footprint QFN28_4X4 (Footprint not found)
pins: 0 GND (power), 1 PA11/X32KO/TMR2 (io), 2 PA10/X32KI/TMR1 (io), 3 VDCID (power), 4 VSW (power), 5 VIO33/VDD33 (power), 6 PA8/RXD1/AIN12 (io), 7 PA9/TMR0/TXD1/AIN13 (io), 8 PB15/TCK/MISO_/SCL/DTR (io), 9 PB14/TIO/MOSI_/SDA/PWM10/DSR (io), 10 PB13/SCK0_/TXD1_/DCD_ (io), 11 PB12/SCS_/RXD1_/RI_ (io), 12 PB11/UD+/TMR2_ (io), 13 PB10/UD-/TMR1_ (io), 14 PB7/TXD0/PWM9 (io), 15 PB4/RXD0/PWM7 (io), 16 PB23/RST/TMR0_/TXD2/PWM11 (io), 17 PB22/TMR3/RXD2 (io), 18 X32MO (out), 19 X32MI (in), 20 VINTA (power), 21 ANT (io), 22 VDCIA (power), 23 PA4/RXD3/AIN0 (io), 24 PA5/TXD3/AIN1 (io), 25 PA15/MISO/RXD0_/AIN5 (io), 26 PA14/MOSI/TXD0_/AIN4 (io), 27 PA13/SCK0/PWM5/AIN3 (io), 28 PA12/SCS/PWM4/AIN2 (io)
2 alternate drawings of the same symbol

## CH592X
designator U?
RISC-V MCU with BLE/USB/ADC/SPI/4*UART/I2C/LCD
footprint QFN32_4X4
pins: 0 GND (power), 1 PA10/X32KI/TMR1 (io), 2 PB6/RTS/PWM8/AIN9 (io), 3 PB0/PWM6/CTS/AIN8 (io), 4 VDCID (power), 5 VSW (power), 6 VIO33/VDD33 (power), 7 PA6/PWM4_/RXD2_/RI/ADC10 (io), 8 PA7/TXD2_/PWM5_/DCD/ADC11 (io), 9 PA8/RXD1/AIN12 (io), 10 PA9/TMR0/TXD1/AIN13 (io), 11 PB15/TCK/MISO_/SCL/DTR (io), 12 PB14/TIO/MOSI_/SDA/PWM10/DSR (io), 13 PB13/SCK0_/TXD1_/DCD_ (io), 14 PB12/SCS_/RXD1_/RI_ (io), 15 PB11/UD+/TMR2_ (io), 16 PB10/UD-/TMR1_ (io), 17 PB7/TXD0/PWM9 (io), 18 PB4/RXD0/PWM7 (io), 19 PB23/RST/TMR0_/TXD2/PWM11 (io), 20 PB22/TMR3/RXD2 (io), 21 X32MO (out), 22 X32MI (in), 23 VINTA (power), 24 ANT (io), 25 VDCIA (power), 26 PA4/RXD3/AIN0 (io), 27 PA5/TXD3/AIN1 (io), 28 PA15/MISO/RXD0_/AIN5 (io), 29 PA14/MOSI/TXD0_/AIN4 (io), 30 PA13/SCK0/PWM5/AIN3 (io), 31 PA12/SCS/PWM4/AIN2 (io), 32 PA11/X32KO/TMR2 (io)
2 alternate drawings of the same symbol

## CH634F
designator U?
2 ports USB 3.0 SS hub + 2 ports USB 2.0 HS hub
footprint QFN32_4X4
pins: 0 GND (power), 1 SMBDAT/PWREN# (io), 2 SMBCLK (io), 3 XO (io), 4 XI (in), 5 P1_HS_DP (io), 6 P1_HS_DM (io), 7 P1_SS_TXB (io), 8 P1_SS_TXA (io), 9 P1_VDD12 (power), 10 P1_SS_RXB (io), 11 P1_SS_RXA (io), 12 UP_SS_TXB (io), 13 UP_SS_TXA (io), 14 UP_VDD12 (power), 15 UP_SS_RXB (io), 16 UP_SS_RXA (io), 17 UP_HS_DP (io), 18 UP_HS_DM (io), 19 P4_HS_DP (io), 20 P4_HS_DM (io), 21 P3_HS_DP (io), 22 P3_HS_DM (io), 23 P2_HS_DP (io), 24 P2_HS_DM (io), 25 P2_SS_TXA (io), 26 P2_SS_TXB (io), 27 P2_SS_RXA (io), 28 P2_SS_RXB (io), 29 VDD12 (power), 30 VDD33 (power), 31 RESET# (io), 32 OVCUR# (io)
2 alternate drawings of the same symbol

## CH634M
designator U?
4 ports USB 3.0 SS hub
footprint QFN46C_5X5
pins: 0 GND (power), 1 P2_HS_DM (io), 2 P2_SS_TXA (io), 3 P2_SS_TXB (io), 4 P2_SS_RXA (io), 5 P2_SS_RXB (io), 6 GND (power), 7 VDD12 (power), 8 VSW (power), 9 VDD5 (power), 10 VDD33 (power), 11 SUSP#/CC2 (io), 12 PWREN#/CC1 (io), 13 OVCUR# (io), 14 RESET# (io), 15 SMBCLK/SCL (io), 16 XO (io), 17 XI (in), 18 SMBDAT/SDA (io), 19 P1_SS_TXB (io), 20 P1_SS_TXA (io), 21 P1_VDD12 (power), 22 P1_SS_RXB (io), 23 P1_SS_RXA (io), 24 P1_HS_DP (io), 25 P1_HS_DM (io), 26 UP_SS_TXB (io), 27 UP_SS_TXA (io), 28 UP_VDD12 (power), 29 UP_SS_RXB (io), 30 UP_SS_RXA (io), 31 UP_HS_DP (io), 32 UP_HS_DM (io), 33 P4_HS_DP (io), 34 P4_HS_DM (io), 35 P4_SS_TXB (io), 36 P4_SS_TXA (io), 37 P4_SS_RXB (io), 38 P4_SS_RXA (io), 39 P4P3_VDD12 (power), 40 P3_SS_TXB (io), 41 P3_SS_TXA (io), 42 P3_SS_RXB (io), 43 P3_SS_RXA (io), 44 P3_HS_DP (io), 45 P3_HS_DM (io), 46 P2_HS_DP (io)
2 alternate drawings of the same symbol

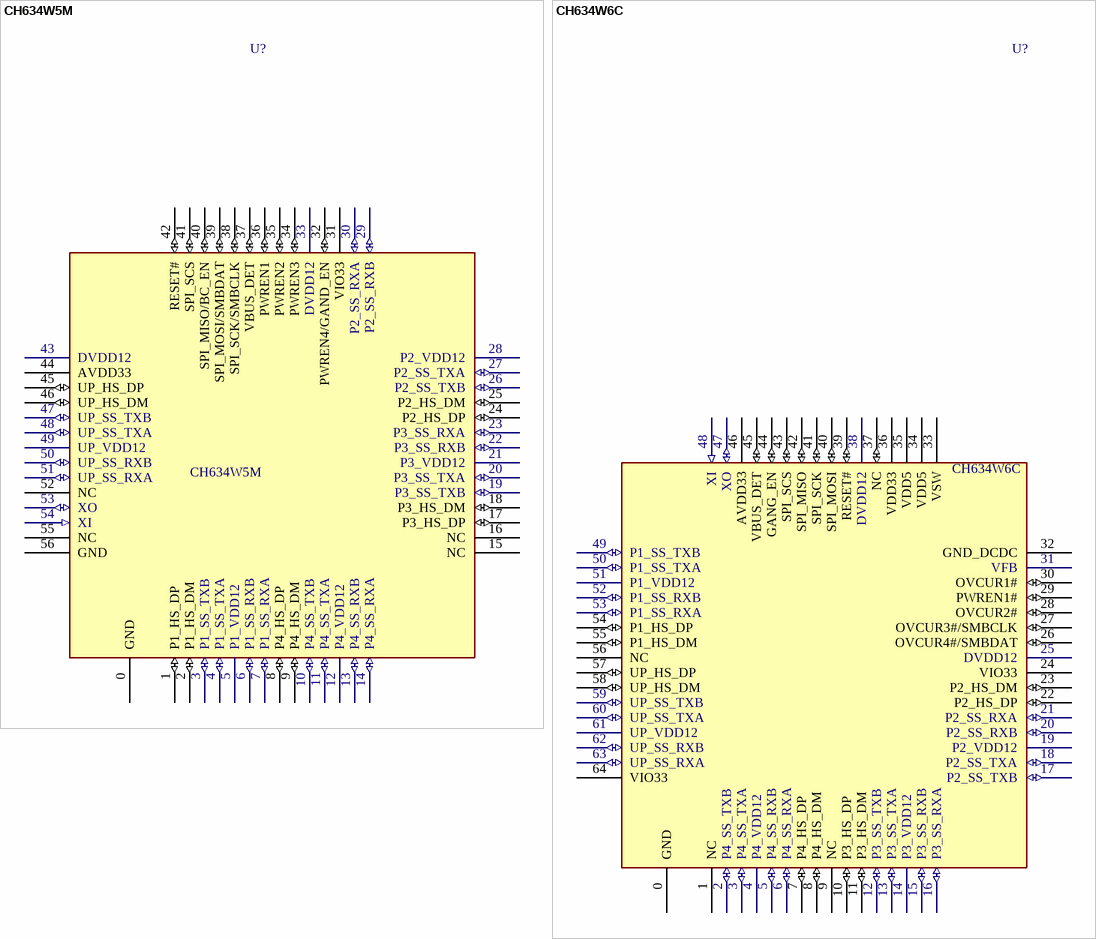
[diagram p55: symbols CH634W5M to CH634W6C]

## CH634W5M
designator U?
4 ports USB 3.0 SS hub
footprint QFN56_7x7
pins: 0 GND (power), 1 P1_HS_DP (io), 2 P1_HS_DM (io), 3 P1_SS_TXB (io), 4 P1_SS_TXA (io), 5 P1_VDD12 (power), 6 P1_SS_RXB (io), 7 P1_SS_RXA (io), 8 P4_HS_DP (io), 9 P4_HS_DM (io), 10 P4_SS_TXB (io), 11 P4_SS_TXA (io), 12 P4_VDD12 (power), 13 P4_SS_RXB (io), 14 P4_SS_RXA (io), 15 NC, 16 NC, 17 P3_HS_DP (io), 18 P3_HS_DM (io), 19 P3_SS_TXB (io), 20 P3_SS_TXA (io), 21 P3_VDD12 (power), 22 P3_SS_RXB (io), 23 P3_SS_RXA (io), 24 P2_HS_DP (io), 25 P2_HS_DM (io), 26 P2_SS_TXB (io), 27 P2_SS_TXA (io), 28 P2_VDD12 (power), 29 P2_SS_RXB (io), 30 P2_SS_RXA (io), 31 VIO33 (power), 32 PWREN4/GAND_EN (io), 33 DVDD12 (power), 34 PWREN3 (io), 35 PWREN2 (io), 36 PWREN1 (io), 37 VBUS_DET (io), 38 SPI_SCK/SMBCLK (io), 39 SPI_MOSI/SMBDAT (io), 40 SPI_MISO/BC_EN (io), 41 SPI_SCS (io), 42 RESET# (io), 43 DVDD12 (power), 44 AVDD33 (power), 45 UP_HS_DP (io), 46 UP_HS_DM (io), 47 UP_SS_TXB (io), 48 UP_SS_TXA (io), 49 UP_VDD12 (power), 50 UP_SS_RXB (io), 51 UP_SS_RXA (io), 52 NC, 53 XO (io), 54 XI (in), 55 NC, 56 GND (power)

## CH634W6C
designator U?
4 ports USB 3.0 SS hub
footprint QFN64_8X8 (Footprint not found)
pins: 0 GND (power), 1 NC, 2 P4_SS_TXB (io), 3 P4_SS_TXA (io), 4 P4_VDD12 (power), 5 P4_SS_RXB (io), 6 P4_SS_RXA (io), 7 P4_HS_DP (io), 8 P4_HS_DM (io), 9 NC, 10 P3_HS_DP (io), 11 P3_HS_DM (io), 12 P3_SS_TXB (io), 13 P3_SS_TXA (io), 14 P3_VDD12 (power), 15 P3_SS_RXB (io), 16 P3_SS_RXA (io), 17 P2_SS_TXB (io), 18 P2_SS_TXA (io), 19 P2_VDD12 (power), 20 P2_SS_RXB (io), 21 P2_SS_RXA (io), 22 P2_HS_DP (io), 23 P2_HS_DM (io), 24 VIO33 (power), 25 DVDD12 (power), 26 OVCUR4#/SMBDAT (io), 27 OVCUR3#/SMBCLK (io), 28 OVCUR2# (io), 29 PWREN1# (io), 30 OVCUR1# (io), 31 VFB (power), 32 GND_DCDC (power), 33 VSW (power), 34 VDD5 (power), 35 VDD5 (power), 36 VDD33 (power), 37 NC (io), 38 DVDD12 (power), 39 RESET# (io), 40 SPI_MOSI (io), 41 SPI_SCK (io), 42 SPI_MISO (io), 43 SPI_SCS (io), 44 GANG_EN (io), 45 VBUS_DET (io), 46 AVDD33 (power), 47 XO (io), 48 XI (in), 49 P1_SS_TXB (io), 50 P1_SS_TXA (io), 51 P1_VDD12 (power), 52 P1_SS_RXB (io), 53 P1_SS_RXA (io), 54 P1_HS_DP (io), 55 P1_HS_DM (io), 56 NC, 57 UP_HS_DP (io), 58 UP_HS_DM (io), 59 UP_SS_TXB (io), 60 UP_SS_TXA (io), 61 UP_VDD12 (power), 62 UP_SS_RXB (io), 63 UP_SS_RXA (io), 64 VIO33 (power)

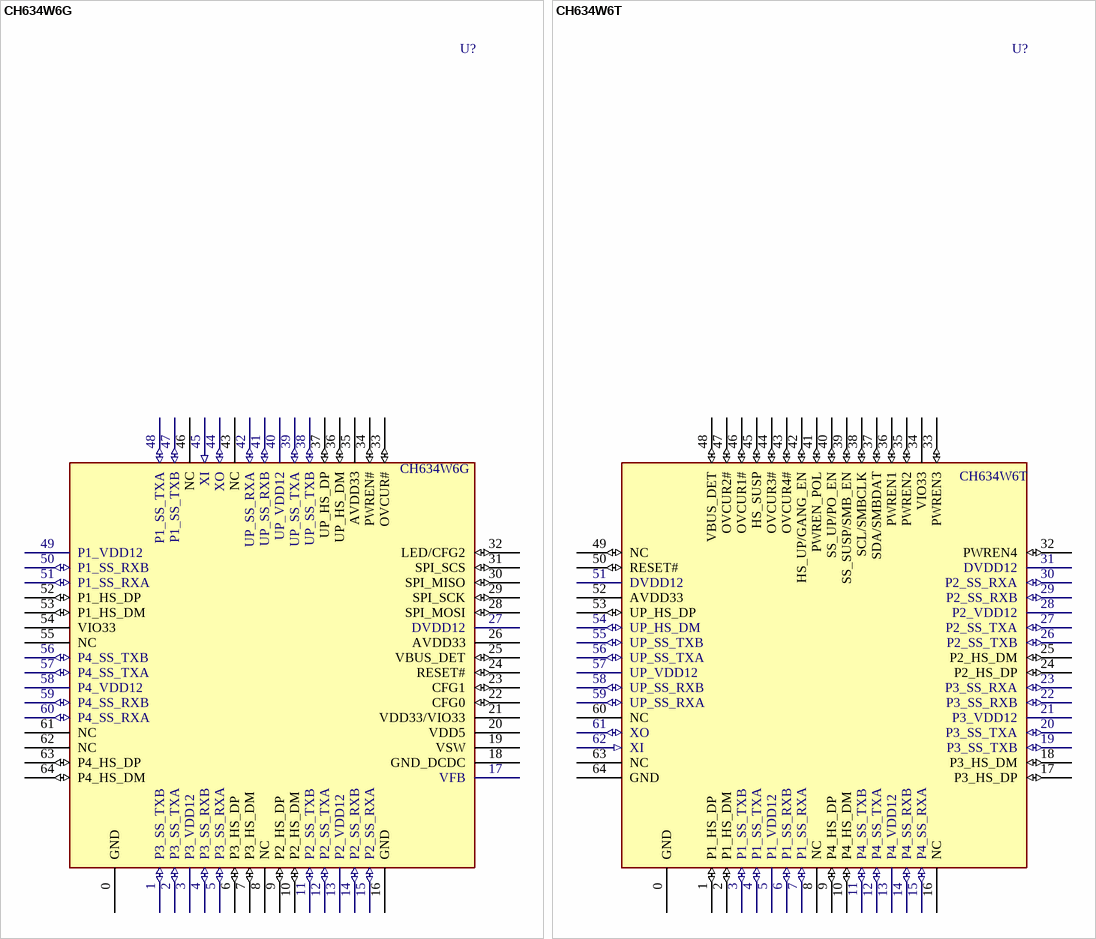
[diagram p56: symbols CH634W6G to CH634W6T]

## CH634W6G
designator U?
4 ports USB 3.0 SS hub
footprint QFN64_8X8 (Footprint not found)
pins: 0 GND (power), 1 P3_SS_TXB (io), 2 P3_SS_TXA (io), 3 P3_VDD12 (power), 4 P3_SS_RXB (io), 5 P3_SS_RXA (io), 6 P3_HS_DP (io), 7 P3_HS_DM (io), 8 NC, 9 P2_HS_DP (io), 10 P2_HS_DM (io), 11 P2_SS_TXB (io), 12 P2_SS_TXA (io), 13 P2_VDD12 (power), 14 P2_SS_RXB (io), 15 P2_SS_RXA (io), 16 GND (power), 17 VFB (power), 18 GND_DCDC (power), 19 VSW (power), 20 VDD5 (power), 21 VDD33/VIO33 (power), 22 CFG0 (io), 23 CFG1 (io), 24 RESET# (io), 25 VBUS_DET (io), 26 AVDD33 (power), 27 DVDD12 (power), 28 SPI_MOSI (io), 29 SPI_SCK (io), 30 SPI_MISO (io), 31 SPI_SCS (io), 32 LED/CFG2 (io), 33 OVCUR# (io), 34 PWREN# (io), 35 AVDD33 (power), 36 UP_HS_DM (io), 37 UP_HS_DP (io), 38 UP_SS_TXB (io), 39 UP_SS_TXA (io), 40 UP_VDD12 (power), 41 UP_SS_RXB (io), 42 UP_SS_RXA (io), 43 NC, 44 XO (io), 45 XI (in), 46 NC, 47 P1_SS_TXB (io), 48 P1_SS_TXA (io), 49 P1_VDD12 (power), 50 P1_SS_RXB (io), 51 P1_SS_RXA (io), 52 P1_HS_DP (io), 53 P1_HS_DM (io), 54 VIO33 (power), 55 NC, 56 P4_SS_TXB (io), 57 P4_SS_TXA (io), 58 P4_VDD12 (power), 59 P4_SS_RXB (io), 60 P4_SS_RXA (io), 61 NC, 62 NC, 63 P4_HS_DP (io), 64 P4_HS_DM (io)